# Altium integrated library Altera Cyclone.IntLib: 144 symbols (part 21 of 23)
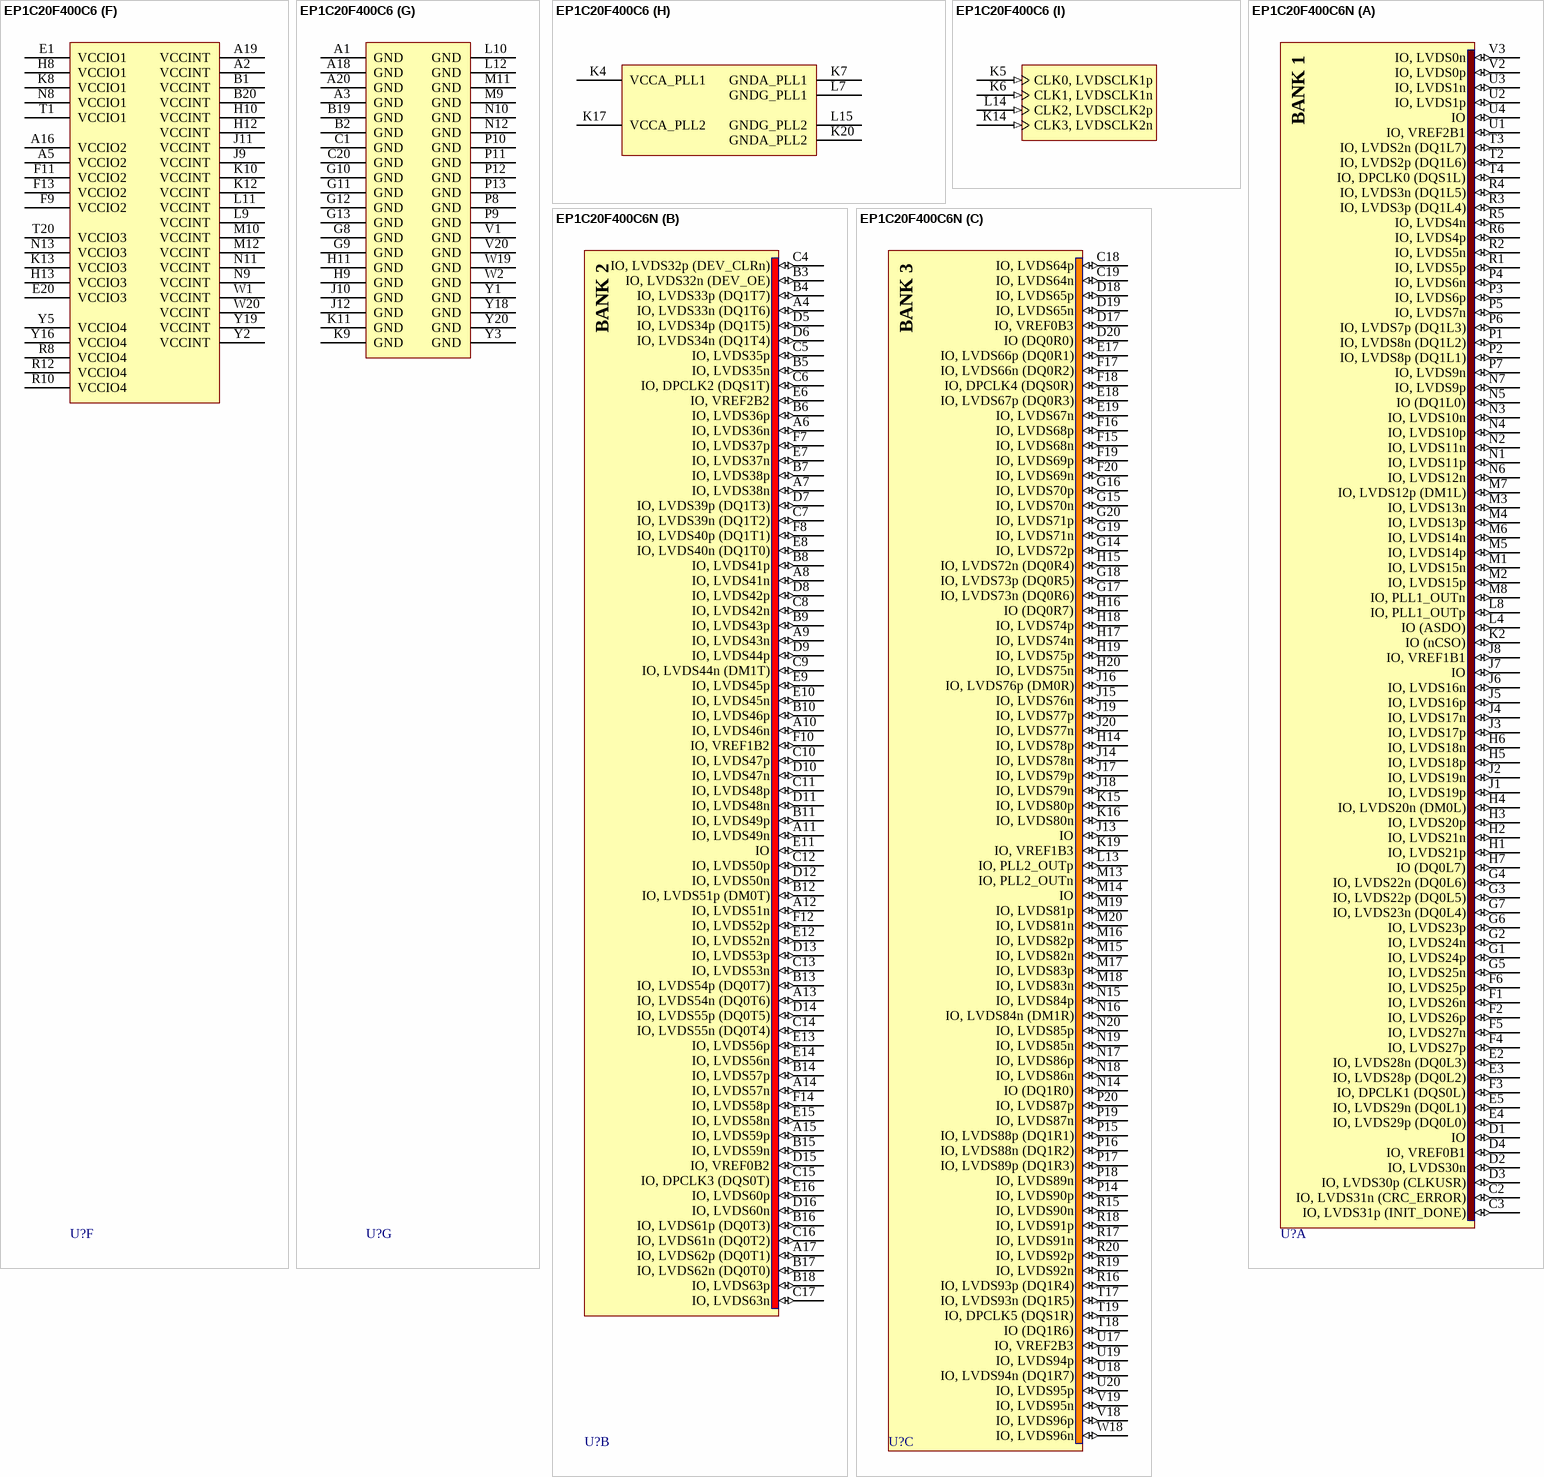
[diagram p173: symbols EP1C20F400C6 to EP1C20F400C6N]

## EP1C20F400C6
designator U?
Cyclone Family, 1.5V FPGA, 301 I/O Pins, 2 x PLLs, Commercial Grade, Speed Grade 6; Published: 17-Sep-2003; LatestRevisionDate: 13-Apr-2006; LatestRevisionNote: Pin C2 name fix, IPC-7351 Footprint Added.; DatasheetVersion: May-2008; PackageVersion: ver15.1, May-2008; PackageReference: FBGA400; Publisher: Altium Limited; PackageDescription: 400-Ball FineLine Ball Grid Array (FBGA400); Code_JEDEC: MS-034-AAH-1; Code_IPC: BGA100P20X20-400; ComponentLink1Description: Manufacturer Link; ComponentLink1URL: http://www.altera.com/products/devices/cyclone/cyc-index.jsp; ComponentLink2Description: Handbook; ComponentLink2URL: http://www.altera.com/literature/hb/cyc/cyc_c5v1.pdf; ComponentLink3Description: Packaging Specification; ComponentLink3URL: http://www.altera.com/literature/ds/dspkg.pdf
footprint FBGA400 (BGA, 400-Leads, Body 21x21mm, Pitch 1mm)
3D model EP1C20-FBGA400 (400-Ball FineLine Ball Grid Array (FBGA400))
signal-integrity model 1c (Cyclone)
part A pins: C2 IO, LVDS31n (CRC_ERROR) (io), C3 IO, LVDS31p (INIT_DONE) (io), D1 IO (io), D2 IO, LVDS30n (io), D3 IO, LVDS30p (CLKUSR) (io), D4 IO, VREF0B1 (io), E2 IO, LVDS28n (DQ0L3) (io), E3 IO, LVDS28p (DQ0L2) (io), E4 IO, LVDS29p (DQ0L0) (io), E5 IO, LVDS29n (DQ0L1) (io), F1 IO, LVDS26n (io), F2 IO, LVDS26p (io), F3 IO, DPCLK1 (DQS0L) (io), F4 IO, LVDS27p (io), F5 IO, LVDS27n (io), F6 IO, LVDS25p (io), G1 IO, LVDS24p (io), G2 IO, LVDS24n (io), G3 IO, LVDS22p (DQ0L5) (io), G4 IO, LVDS22n (DQ0L6) (io), G5 IO, LVDS25n (io), G6 IO, LVDS23p (io), G7 IO, LVDS23n (DQ0L4) (io), H1 IO, LVDS21p (io), H2 IO, LVDS21n (io), H3 IO, LVDS20p (io), H4 IO, LVDS20n (DM0L) (io), H5 IO, LVDS18p (io), H6 IO, LVDS18n (io), H7 IO (DQ0L7) (io), J1 IO, LVDS19p (io), J2 IO, LVDS19n (io), J3 IO, LVDS17p (io), J4 IO, LVDS17n (io), J5 IO, LVDS16p (io), J6 IO, LVDS16n (io), J7 IO (io), J8 IO, VREF1B1 (io), K2 IO (nCSO) (io), L4 IO (ASDO) (io), L8 IO, PLL1_OUTp (io), M1 IO, LVDS15n (io), M2 IO, LVDS15p (io), M3 IO, LVDS13n (io), M4 IO, LVDS13p (io), M5 IO, LVDS14p (io), M6 IO, LVDS14n (io), M7 IO, LVDS12p (DM1L) (io), M8 IO, PLL1_OUTn (io), N1 IO, LVDS11p (io), N2 IO, LVDS11n (io), N3 IO, LVDS10n (io), N4 IO, LVDS10p (io), N5 IO (DQ1L0) (io), N6 IO, LVDS12n (io), N7 IO, LVDS9p (io), P1 IO, LVDS8n (DQ1L2) (io), P2 IO, LVDS8p (DQ1L1) (io), P3 IO, LVDS6p (io), P4 IO, LVDS6n (io), P5 IO, LVDS7n (io), P6 IO, LVDS7p (DQ1L3) (io), P7 IO, LVDS9n (io), R1 IO, LVDS5p (io), R2 IO, LVDS5n (io), R3 IO, LVDS3p (DQ1L4) (io), R4 IO, LVDS3n (DQ1L5) (io), R5 IO, LVDS4n (io), R6 IO, LVDS4p (io), T2 IO, LVDS2p (DQ1L6) (io), T3 IO, LVDS2n (DQ1L7) (io), T4 IO, DPCLK0 (DQS1L) (io), U1 IO, VREF2B1 (io), U2 IO, LVDS1p (io), U3 IO, LVDS1n (io), U4 IO (io), V2 IO, LVDS0p (io), V3 IO, LVDS0n (io)
part B pins: A4 IO, LVDS33n (DQ1T6) (io), A6 IO, LVDS36n (io), A7 IO, LVDS38n (io), A8 IO, LVDS41n (io), A9 IO, LVDS43n (io), A10 IO, LVDS46n (io), A11 IO, LVDS49n (io), A12 IO, LVDS51n (io), A13 IO, LVDS54n (DQ0T6) (io), A14 IO, LVDS57n (io), A15 IO, LVDS59p (io), A17 IO, LVDS62p (DQ0T1) (io), B3 IO, LVDS32n (DEV_OE) (io), B4 IO, LVDS33p (DQ1T7) (io), B5 IO, LVDS35n (io), B6 IO, LVDS36p (io), B7 IO, LVDS38p (io), B8 IO, LVDS41p (io), B9 IO, LVDS43p (io), B10 IO, LVDS46p (io), B11 IO, LVDS49p (io), B12 IO, LVDS51p (DM0T) (io), B13 IO, LVDS54p (DQ0T7) (io), B14 IO, LVDS57p (io), B15 IO, LVDS59n (io), B16 IO, LVDS61p (DQ0T3) (io), B17 IO, LVDS62n (DQ0T0) (io), B18 IO, LVDS63p (io), C4 IO, LVDS32p (DEV_CLRn) (io), C5 IO, LVDS35p (io), C6 IO, DPCLK2 (DQS1T) (io), C7 IO, LVDS39n (DQ1T2) (io), C8 IO, LVDS42n (io), C9 IO, LVDS44n (DM1T) (io), C10 IO, LVDS47p (io), C11 IO, LVDS48p (io), C12 IO, LVDS50p (io), C13 IO, LVDS53n (io), C14 IO, LVDS55n (DQ0T4) (io), C15 IO, DPCLK3 (DQS0T) (io), C16 IO, LVDS61n (DQ0T2) (io), C17 IO, LVDS63n (io), D5 IO, LVDS34p (DQ1T5) (io), D6 IO, LVDS34n (DQ1T4) (io), D7 IO, LVDS39p (DQ1T3) (io), D8 IO, LVDS42p (io), D9 IO, LVDS44p (io), D10 IO, LVDS47n (io), D11 IO, LVDS48n (io), D12 IO, LVDS50n (io), D13 IO, LVDS53p (io), D14 IO, LVDS55p (DQ0T5) (io), D15 IO, VREF0B2 (io), D16 IO, LVDS60n (io), E6 IO, VREF2B2 (io), E7 IO, LVDS37n (io), E8 IO, LVDS40n (DQ1T0) (io), E9 IO, LVDS45p (io), E10 IO, LVDS45n (io), E11 IO (io), E12 IO, LVDS52n (io), E13 IO, LVDS56p (io), E14 IO, LVDS56n (io), E15 IO, LVDS58n (io), E16 IO, LVDS60p (io), F7 IO, LVDS37p (io), F8 IO, LVDS40p (DQ1T1) (io), F10 IO, VREF1B2 (io), F12 IO, LVDS52p (io), F14 IO, LVDS58p (io)
part C pins: C18 IO, LVDS64p (io), C19 IO, LVDS64n (io), D17 IO, VREF0B3 (io), D18 IO, LVDS65p (io), D19 IO, LVDS65n (io), D20 IO (DQ0R0) (io), E17 IO, LVDS66p (DQ0R1) (io), E18 IO, LVDS67p (DQ0R3) (io), E19 IO, LVDS67n (io), F15 IO, LVDS68n (io), F16 IO, LVDS68p (io), F17 IO, LVDS66n (DQ0R2) (io), F18 IO, DPCLK4 (DQS0R) (io), F19 IO, LVDS69p (io), F20 IO, LVDS69n (io), G14 IO, LVDS72p (io), G15 IO, LVDS70n (io), G16 IO, LVDS70p (io), G17 IO, LVDS73n (DQ0R6) (io), G18 IO, LVDS73p (DQ0R5) (io), G19 IO, LVDS71n (io), G20 IO, LVDS71p (io), H14 IO, LVDS78p (io), H15 IO, LVDS72n (DQ0R4) (io), H16 IO (DQ0R7) (io), H17 IO, LVDS74n (io), H18 IO, LVDS74p (io), H19 IO, LVDS75p (io), H20 IO, LVDS75n (io), J13 IO (io), J14 IO, LVDS78n (io), J15 IO, LVDS76n (io), J16 IO, LVDS76p (DM0R) (io), J17 IO, LVDS79p (io), J18 IO, LVDS79n (io), J19 IO, LVDS77p (io), J20 IO, LVDS77n (io), K15 IO, LVDS80p (io), K16 IO, LVDS80n (io), K19 IO, VREF1B3 (io), L13 IO, PLL2_OUTp (io), M13 IO, PLL2_OUTn (io), M14 IO (io), M15 IO, LVDS82n (io), M16 IO, LVDS82p (io), M17 IO, LVDS83p (io), M18 IO, LVDS83n (io), M19 IO, LVDS81p (io), M20 IO, LVDS81n (io), N14 IO (DQ1R0) (io), N15 IO, LVDS84p (io), N16 IO, LVDS84n (DM1R) (io), N17 IO, LVDS86p (io), N18 IO, LVDS86n (io), N19 IO, LVDS85n (io), N20 IO, LVDS85p (io), P14 IO, LVDS90p (io), P15 IO, LVDS88p (DQ1R1) (io), P16 IO, LVDS88n (DQ1R2) (io), P17 IO, LVDS89p (DQ1R3) (io), P18 IO, LVDS89n (io), P19 IO, LVDS87n (io), P20 IO, LVDS87p (io), R15 IO, LVDS90n (io), R16 IO, LVDS93p (DQ1R4) (io), R17 IO, LVDS91n (io), R18 IO, LVDS91p (io), R19 IO, LVDS92n (io), R20 IO, LVDS92p (io), T17 IO, LVDS93n (DQ1R5) (io), T18 IO (DQ1R6) (io), T19 IO, DPCLK5 (DQS1R) (io), U17 IO, VREF2B3 (io), U18 IO, LVDS94n (DQ1R7) (io), U19 IO, LVDS94p (io), U20 IO, LVDS95p (io), V18 IO, LVDS96p (io), V19 IO, LVDS95n (io), W18 IO, LVDS96n (io)
part D pins: R7 IO, LVDS121p (DQ1B3) (io), R9 IO, LVDS116n (io), R11 IO (io), R13 IO, LVDS107n (io), R14 IO, LVDS104p (io), T5 IO, LVDS126p (DQ1B7) (io), T6 IO, DPCLK7 (DQS1B) (io), T7 IO, VREF2B4 (io), T8 IO, LVDS121n (DQ1B2) (io), T9 IO, LVDS116p (DM1B) (io), T10 IO, LVDS114p (io), T11 IO, LVDS109p (io), T12 IO, LVDS109n (io), T13 IO, LVDS107p (io), T14 IO, LVDS104n (io), T15 IO, LVDS100p (io), T16 IO, LVDS100n (io), U5 IO, LVDS126n (DQ1B6) (io), U6 IO, LVDS123p (DQ1B4) (io), U7 IO, LVDS120n (DQ1B0) (io), U8 IO, LVDS119n (io), U9 IO, LVDS117p (io), U10 IO, LVDS114n (io), U11 IO, LVDS112n (io), U12 IO, LVDS108p (DM0B) (io), U13 IO, LVDS105p (DQ0B5) (io), U14 IO, LVDS102p (io), U15 IO, LVDS101n (io), U16 IO, LVDS98n (DQ0B0) (io), V4 IO, LVDS127p (io), V5 IO, LVDS125p (io), V6 IO, LVDS123n (io), V7 IO, LVDS120p (DQ1B1) (io), V8 IO, LVDS119p (io), V9 IO, LVDS117n (io), V10 IO, VREF1B4 (io), V11 IO, LVDS112p (io), V12 IO, LVDS108n (io), V13 IO, LVDS105n (DQ0B4) (io), V14 IO, LVDS102n (io), V15 IO, LVDS101p (io), V16 IO, LVDS99n (DQ0B2) (io), V17 IO, LVDS98p (DQ0B1) (io), W3 IO, LVDS128p (io), W4 IO, LVDS127n (io), W5 IO, LVDS125n (io), W6 IO, LVDS124p (io), W7 IO, LVDS122p (io), W8 IO, LVDS118p (io), W9 IO, LVDS115n (io), W10 IO, LVDS113p (io), W11 IO, LVDS111p (io), W12 IO, LVDS110n (io), W13 IO, LVDS106n (DQ0B6) (io), W14 IO, LVDS103p (io), W15 IO, DPCLK6 (DQS0B) (io), W16 IO, LVDS99p (DQ0B3) (io), W17 IO, LVDS97n (io), Y4 IO, LVDS128n (io), Y6 IO, LVDS124n (DQ1B5) (io), Y7 IO, LVDS122n (io), Y8 IO, LVDS118n (io), Y9 IO, LVDS115p (io), Y10 IO, LVDS113n (io), Y11 IO, LVDS111n (io), Y12 IO, LVDS110p (io), Y13 IO, LVDS106p (DQ0B7) (io), Y14 IO, LVDS103n (io), Y15 IO, VREF0B4 (io), Y17 IO, LVDS97p (io)
part E pins: K1 nCONFIG (in), K3 DATA0 (in), K18 TDI (in), L1 MSEL0 (in), L2 nCEO (out), L3 DCLK (io), L5 nCE (in), L6 MSEL1 (in), L16 TMS (in), L17 nSTATUS (io), L18 CONF_DONE (io), L19 TCK (in), L20 TDO (out)
part F pins: A2 VCCINT (power), A5 VCCIO2 (power), A16 VCCIO2 (power), A19 VCCINT (power), B1 VCCINT (power), B20 VCCINT (power), E1 VCCIO1 (power), E20 VCCIO3 (power), F9 VCCIO2 (power), F11 VCCIO2 (power), F13 VCCIO2 (power), H8 VCCIO1 (power), H10 VCCINT (power), H12 VCCINT (power), H13 VCCIO3 (power), J9 VCCINT (power), J11 VCCINT (power), K8 VCCIO1 (power), K10 VCCINT (power), K12 VCCINT (power), K13 VCCIO3 (power), L9 VCCINT (power), L11 VCCINT (power), M10 VCCINT (power), M12 VCCINT (power), N8 VCCIO1 (power), N9 VCCINT (power), N11 VCCINT (power), N13 VCCIO3 (power), R8 VCCIO4 (power), R10 VCCIO4 (power), R12 VCCIO4 (power), T1 VCCIO1 (power), T20 VCCIO3 (power), W1 VCCINT (power), W20 VCCINT (power), Y2 VCCINT (power), Y5 VCCIO4 (power), Y16 VCCIO4 (power), Y19 VCCINT (power)
part G pins: A1 GND (power), A3 GND (power), A18 GND (power), A20 GND (power), B2 GND (power), B19 GND (power), C1 GND (power), C20 GND (power), G8 GND (power), G9 GND (power), G10 GND (power), G11 GND (power), G12 GND (power), G13 GND (power), H9 GND (power), H11 GND (power), J10 GND (power), J12 GND (power), K9 GND (power), K11 GND (power), L10 GND (power), L12 GND (power), M9 GND (power), M11 GND (power), N10 GND (power), N12 GND (power), P8 GND (power), P9 GND (power), P10 GND (power), P11 GND (power), P12 GND (power), P13 GND (power), V1 GND (power), V20 GND (power), W2 GND (power), W19 GND (power), Y1 GND (power), Y3 GND (power), Y18 GND (power), Y20 GND (power)
part H pins: K4 VCCA_PLL1 (power), K7 GNDA_PLL1 (power), K17 VCCA_PLL2 (power), K20 GNDA_PLL2 (power), L7 GNDG_PLL1 (power), L15 GNDG_PLL2 (power)
part I pins: K5 CLK0, LVDSCLK1p (in), K6 CLK1, LVDSCLK1n (in), K14 CLK3, LVDSCLK2n (in), L14 CLK2, LVDSCLK2p (in)
part A text: BANK 1
part B text: BANK 2
part C text: BANK 3
part D text: BANK 4

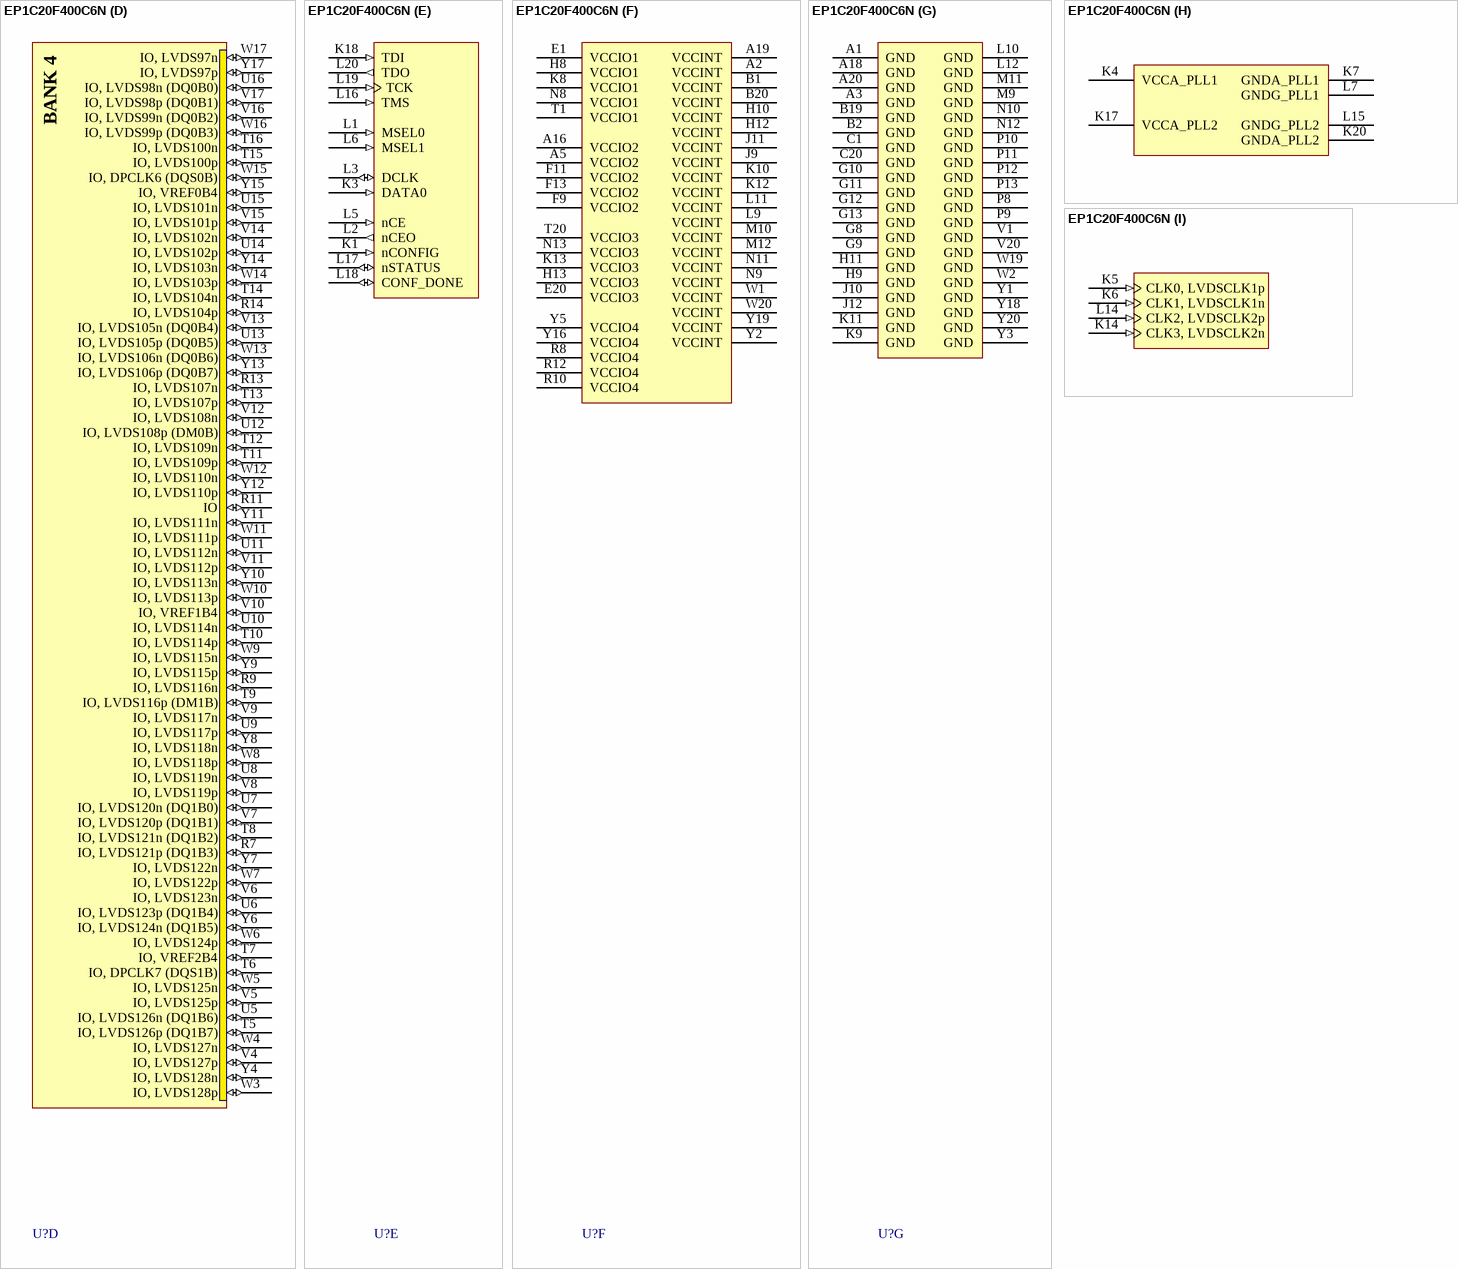
[diagram p138: symbol EP1C20F400C6N]

## EP1C20F400C6N
designator U?
Cyclone Family, 1.5V FPGA, 301 I/O Pins, 2 x PLLs, Commercial Grade, Speed Grade 6, Pb-Free; Published: 18-Aug-2005; LatestRevisionDate: 13-Apr-2006; LatestRevisionNote: Pin C2 name fix, IPC-7351 Footprint Added.; DatasheetVersion: May-2008; PackageVersion: ver15.1, May-2008; PackageReference: FBGA400; Publisher: Altium Limited; PackageDescription: 400-Ball FineLine Ball Grid Array (FBGA400); Code_JEDEC: MS-034-AAH-1; Code_IPC: BGA100P20X20-400; ComponentLink1Description: Manufacturer Link; ComponentLink1URL: http://www.altera.com/products/devices/cyclone/cyc-index.jsp; ComponentLink2Description: Handbook; ComponentLink2URL: http://www.altera.com/literature/hb/cyc/cyc_c5v1.pdf; ComponentLink3Description: Packaging Specification; ComponentLink3URL: http://www.altera.com/literature/ds/dspkg.pdf
footprint FBGA400 (BGA, 400-Leads, Body 21x21mm, Pitch 1mm)
3D model EP1C20-FBGA400 (400-Ball FineLine Ball Grid Array (FBGA400))
signal-integrity model 1c (Cyclone)
part A pins: C2 IO, LVDS31n (CRC_ERROR) (io), C3 IO, LVDS31p (INIT_DONE) (io), D1 IO (io), D2 IO, LVDS30n (io), D3 IO, LVDS30p (CLKUSR) (io), D4 IO, VREF0B1 (io), E2 IO, LVDS28n (DQ0L3) (io), E3 IO, LVDS28p (DQ0L2) (io), E4 IO, LVDS29p (DQ0L0) (io), E5 IO, LVDS29n (DQ0L1) (io), F1 IO, LVDS26n (io), F2 IO, LVDS26p (io), F3 IO, DPCLK1 (DQS0L) (io), F4 IO, LVDS27p (io), F5 IO, LVDS27n (io), F6 IO, LVDS25p (io), G1 IO, LVDS24p (io), G2 IO, LVDS24n (io), G3 IO, LVDS22p (DQ0L5) (io), G4 IO, LVDS22n (DQ0L6) (io), G5 IO, LVDS25n (io), G6 IO, LVDS23p (io), G7 IO, LVDS23n (DQ0L4) (io), H1 IO, LVDS21p (io), H2 IO, LVDS21n (io), H3 IO, LVDS20p (io), H4 IO, LVDS20n (DM0L) (io), H5 IO, LVDS18p (io), H6 IO, LVDS18n (io), H7 IO (DQ0L7) (io), J1 IO, LVDS19p (io), J2 IO, LVDS19n (io), J3 IO, LVDS17p (io), J4 IO, LVDS17n (io), J5 IO, LVDS16p (io), J6 IO, LVDS16n (io), J7 IO (io), J8 IO, VREF1B1 (io), K2 IO (nCSO) (io), L4 IO (ASDO) (io), L8 IO, PLL1_OUTp (io), M1 IO, LVDS15n (io), M2 IO, LVDS15p (io), M3 IO, LVDS13n (io), M4 IO, LVDS13p (io), M5 IO, LVDS14p (io), M6 IO, LVDS14n (io), M7 IO, LVDS12p (DM1L) (io), M8 IO, PLL1_OUTn (io), N1 IO, LVDS11p (io), N2 IO, LVDS11n (io), N3 IO, LVDS10n (io), N4 IO, LVDS10p (io), N5 IO (DQ1L0) (io), N6 IO, LVDS12n (io), N7 IO, LVDS9p (io), P1 IO, LVDS8n (DQ1L2) (io), P2 IO, LVDS8p (DQ1L1) (io), P3 IO, LVDS6p (io), P4 IO, LVDS6n (io), P5 IO, LVDS7n (io), P6 IO, LVDS7p (DQ1L3) (io), P7 IO, LVDS9n (io), R1 IO, LVDS5p (io), R2 IO, LVDS5n (io), R3 IO, LVDS3p (DQ1L4) (io), R4 IO, LVDS3n (DQ1L5) (io), R5 IO, LVDS4n (io), R6 IO, LVDS4p (io), T2 IO, LVDS2p (DQ1L6) (io), T3 IO, LVDS2n (DQ1L7) (io), T4 IO, DPCLK0 (DQS1L) (io), U1 IO, VREF2B1 (io), U2 IO, LVDS1p (io), U3 IO, LVDS1n (io), U4 IO (io), V2 IO, LVDS0p (io), V3 IO, LVDS0n (io)
part B pins: A4 IO, LVDS33n (DQ1T6) (io), A6 IO, LVDS36n (io), A7 IO, LVDS38n (io), A8 IO, LVDS41n (io), A9 IO, LVDS43n (io), A10 IO, LVDS46n (io), A11 IO, LVDS49n (io), A12 IO, LVDS51n (io), A13 IO, LVDS54n (DQ0T6) (io), A14 IO, LVDS57n (io), A15 IO, LVDS59p (io), A17 IO, LVDS62p (DQ0T1) (io), B3 IO, LVDS32n (DEV_OE) (io), B4 IO, LVDS33p (DQ1T7) (io), B5 IO, LVDS35n (io), B6 IO, LVDS36p (io), B7 IO, LVDS38p (io), B8 IO, LVDS41p (io), B9 IO, LVDS43p (io), B10 IO, LVDS46p (io), B11 IO, LVDS49p (io), B12 IO, LVDS51p (DM0T) (io), B13 IO, LVDS54p (DQ0T7) (io), B14 IO, LVDS57p (io), B15 IO, LVDS59n (io), B16 IO, LVDS61p (DQ0T3) (io), B17 IO, LVDS62n (DQ0T0) (io), B18 IO, LVDS63p (io), C4 IO, LVDS32p (DEV_CLRn) (io), C5 IO, LVDS35p (io), C6 IO, DPCLK2 (DQS1T) (io), C7 IO, LVDS39n (DQ1T2) (io), C8 IO, LVDS42n (io), C9 IO, LVDS44n (DM1T) (io), C10 IO, LVDS47p (io), C11 IO, LVDS48p (io), C12 IO, LVDS50p (io), C13 IO, LVDS53n (io), C14 IO, LVDS55n (DQ0T4) (io), C15 IO, DPCLK3 (DQS0T) (io), C16 IO, LVDS61n (DQ0T2) (io), C17 IO, LVDS63n (io), D5 IO, LVDS34p (DQ1T5) (io), D6 IO, LVDS34n (DQ1T4) (io), D7 IO, LVDS39p (DQ1T3) (io), D8 IO, LVDS42p (io), D9 IO, LVDS44p (io), D10 IO, LVDS47n (io), D11 IO, LVDS48n (io), D12 IO, LVDS50n (io), D13 IO, LVDS53p (io), D14 IO, LVDS55p (DQ0T5) (io), D15 IO, VREF0B2 (io), D16 IO, LVDS60n (io), E6 IO, VREF2B2 (io), E7 IO, LVDS37n (io), E8 IO, LVDS40n (DQ1T0) (io), E9 IO, LVDS45p (io), E10 IO, LVDS45n (io), E11 IO (io), E12 IO, LVDS52n (io), E13 IO, LVDS56p (io), E14 IO, LVDS56n (io), E15 IO, LVDS58n (io), E16 IO, LVDS60p (io), F7 IO, LVDS37p (io), F8 IO, LVDS40p (DQ1T1) (io), F10 IO, VREF1B2 (io), F12 IO, LVDS52p (io), F14 IO, LVDS58p (io)
part C pins: C18 IO, LVDS64p (io), C19 IO, LVDS64n (io), D17 IO, VREF0B3 (io), D18 IO, LVDS65p (io), D19 IO, LVDS65n (io), D20 IO (DQ0R0) (io), E17 IO, LVDS66p (DQ0R1) (io), E18 IO, LVDS67p (DQ0R3) (io), E19 IO, LVDS67n (io), F15 IO, LVDS68n (io), F16 IO, LVDS68p (io), F17 IO, LVDS66n (DQ0R2) (io), F18 IO, DPCLK4 (DQS0R) (io), F19 IO, LVDS69p (io), F20 IO, LVDS69n (io), G14 IO, LVDS72p (io), G15 IO, LVDS70n (io), G16 IO, LVDS70p (io), G17 IO, LVDS73n (DQ0R6) (io), G18 IO, LVDS73p (DQ0R5) (io), G19 IO, LVDS71n (io), G20 IO, LVDS71p (io), H14 IO, LVDS78p (io), H15 IO, LVDS72n (DQ0R4) (io), H16 IO (DQ0R7) (io), H17 IO, LVDS74n (io), H18 IO, LVDS74p (io), H19 IO, LVDS75p (io), H20 IO, LVDS75n (io), J13 IO (io), J14 IO, LVDS78n (io), J15 IO, LVDS76n (io), J16 IO, LVDS76p (DM0R) (io), J17 IO, LVDS79p (io), J18 IO, LVDS79n (io), J19 IO, LVDS77p (io), J20 IO, LVDS77n (io), K15 IO, LVDS80p (io), K16 IO, LVDS80n (io), K19 IO, VREF1B3 (io), L13 IO, PLL2_OUTp (io), M13 IO, PLL2_OUTn (io), M14 IO (io), M15 IO, LVDS82n (io), M16 IO, LVDS82p (io), M17 IO, LVDS83p (io), M18 IO, LVDS83n (io), M19 IO, LVDS81p (io), M20 IO, LVDS81n (io), N14 IO (DQ1R0) (io), N15 IO, LVDS84p (io), N16 IO, LVDS84n (DM1R) (io), N17 IO, LVDS86p (io), N18 IO, LVDS86n (io), N19 IO, LVDS85n (io), N20 IO, LVDS85p (io), P14 IO, LVDS90p (io), P15 IO, LVDS88p (DQ1R1) (io), P16 IO, LVDS88n (DQ1R2) (io), P17 IO, LVDS89p (DQ1R3) (io), P18 IO, LVDS89n (io), P19 IO, LVDS87n (io), P20 IO, LVDS87p (io), R15 IO, LVDS90n (io), R16 IO, LVDS93p (DQ1R4) (io), R17 IO, LVDS91n (io), R18 IO, LVDS91p (io), R19 IO, LVDS92n (io), R20 IO, LVDS92p (io), T17 IO, LVDS93n (DQ1R5) (io), T18 IO (DQ1R6) (io), T19 IO, DPCLK5 (DQS1R) (io), U17 IO, VREF2B3 (io), U18 IO, LVDS94n (DQ1R7) (io), U19 IO, LVDS94p (io), U20 IO, LVDS95p (io), V18 IO, LVDS96p (io), V19 IO, LVDS95n (io), W18 IO, LVDS96n (io)
part D pins: R7 IO, LVDS121p (DQ1B3) (io), R9 IO, LVDS116n (io), R11 IO (io), R13 IO, LVDS107n (io), R14 IO, LVDS104p (io), T5 IO, LVDS126p (DQ1B7) (io), T6 IO, DPCLK7 (DQS1B) (io), T7 IO, VREF2B4 (io), T8 IO, LVDS121n (DQ1B2) (io), T9 IO, LVDS116p (DM1B) (io), T10 IO, LVDS114p (io), T11 IO, LVDS109p (io), T12 IO, LVDS109n (io), T13 IO, LVDS107p (io), T14 IO, LVDS104n (io), T15 IO, LVDS100p (io), T16 IO, LVDS100n (io), U5 IO, LVDS126n (DQ1B6) (io), U6 IO, LVDS123p (DQ1B4) (io), U7 IO, LVDS120n (DQ1B0) (io), U8 IO, LVDS119n (io), U9 IO, LVDS117p (io), U10 IO, LVDS114n (io), U11 IO, LVDS112n (io), U12 IO, LVDS108p (DM0B) (io), U13 IO, LVDS105p (DQ0B5) (io), U14 IO, LVDS102p (io), U15 IO, LVDS101n (io), U16 IO, LVDS98n (DQ0B0) (io), V4 IO, LVDS127p (io), V5 IO, LVDS125p (io), V6 IO, LVDS123n (io), V7 IO, LVDS120p (DQ1B1) (io), V8 IO, LVDS119p (io), V9 IO, LVDS117n (io), V10 IO, VREF1B4 (io), V11 IO, LVDS112p (io), V12 IO, LVDS108n (io), V13 IO, LVDS105n (DQ0B4) (io), V14 IO, LVDS102n (io), V15 IO, LVDS101p (io), V16 IO, LVDS99n (DQ0B2) (io), V17 IO, LVDS98p (DQ0B1) (io), W3 IO, LVDS128p (io), W4 IO, LVDS127n (io), W5 IO, LVDS125n (io), W6 IO, LVDS124p (io), W7 IO, LVDS122p (io), W8 IO, LVDS118p (io), W9 IO, LVDS115n (io), W10 IO, LVDS113p (io), W11 IO, LVDS111p (io), W12 IO, LVDS110n (io), W13 IO, LVDS106n (DQ0B6) (io), W14 IO, LVDS103p (io), W15 IO, DPCLK6 (DQS0B) (io), W16 IO, LVDS99p (DQ0B3) (io), W17 IO, LVDS97n (io), Y4 IO, LVDS128n (io), Y6 IO, LVDS124n (DQ1B5) (io), Y7 IO, LVDS122n (io), Y8 IO, LVDS118n (io), Y9 IO, LVDS115p (io), Y10 IO, LVDS113n (io), Y11 IO, LVDS111n (io), Y12 IO, LVDS110p (io), Y13 IO, LVDS106p (DQ0B7) (io), Y14 IO, LVDS103n (io), Y15 IO, VREF0B4 (io), Y17 IO, LVDS97p (io)
part E pins: K1 nCONFIG (in), K3 DATA0 (in), K18 TDI (in), L1 MSEL0 (in), L2 nCEO (out), L3 DCLK (io), L5 nCE (in), L6 MSEL1 (in), L16 TMS (in), L17 nSTATUS (io), L18 CONF_DONE (io), L19 TCK (in), L20 TDO (out)
part F pins: A2 VCCINT (power), A5 VCCIO2 (power), A16 VCCIO2 (power), A19 VCCINT (power), B1 VCCINT (power), B20 VCCINT (power), E1 VCCIO1 (power), E20 VCCIO3 (power), F9 VCCIO2 (power), F11 VCCIO2 (power), F13 VCCIO2 (power), H8 VCCIO1 (power), H10 VCCINT (power), H12 VCCINT (power), H13 VCCIO3 (power), J9 VCCINT (power), J11 VCCINT (power), K8 VCCIO1 (power), K10 VCCINT (power), K12 VCCINT (power), K13 VCCIO3 (power), L9 VCCINT (power), L11 VCCINT (power), M10 VCCINT (power), M12 VCCINT (power), N8 VCCIO1 (power), N9 VCCINT (power), N11 VCCINT (power), N13 VCCIO3 (power), R8 VCCIO4 (power), R10 VCCIO4 (power), R12 VCCIO4 (power), T1 VCCIO1 (power), T20 VCCIO3 (power), W1 VCCINT (power), W20 VCCINT (power), Y2 VCCINT (power), Y5 VCCIO4 (power), Y16 VCCIO4 (power), Y19 VCCINT (power)
part G pins: A1 GND (power), A3 GND (power), A18 GND (power), A20 GND (power), B2 GND (power), B19 GND (power), C1 GND (power), C20 GND (power), G8 GND (power), G9 GND (power), G10 GND (power), G11 GND (power), G12 GND (power), G13 GND (power), H9 GND (power), H11 GND (power), J10 GND (power), J12 GND (power), K9 GND (power), K11 GND (power), L10 GND (power), L12 GND (power), M9 GND (power), M11 GND (power), N10 GND (power), N12 GND (power), P8 GND (power), P9 GND (power), P10 GND (power), P11 GND (power), P12 GND (power), P13 GND (power), V1 GND (power), V20 GND (power), W2 GND (power), W19 GND (power), Y1 GND (power), Y3 GND (power), Y18 GND (power), Y20 GND (power)
part H pins: K4 VCCA_PLL1 (power), K7 GNDA_PLL1 (power), K17 VCCA_PLL2 (power), K20 GNDA_PLL2 (power), L7 GNDG_PLL1 (power), L15 GNDG_PLL2 (power)
part I pins: K5 CLK0, LVDSCLK1p (in), K6 CLK1, LVDSCLK1n (in), K14 CLK3, LVDSCLK2n (in), L14 CLK2, LVDSCLK2p (in)
part A text: BANK 1
part B text: BANK 2
part C text: BANK 3
part D text: BANK 4

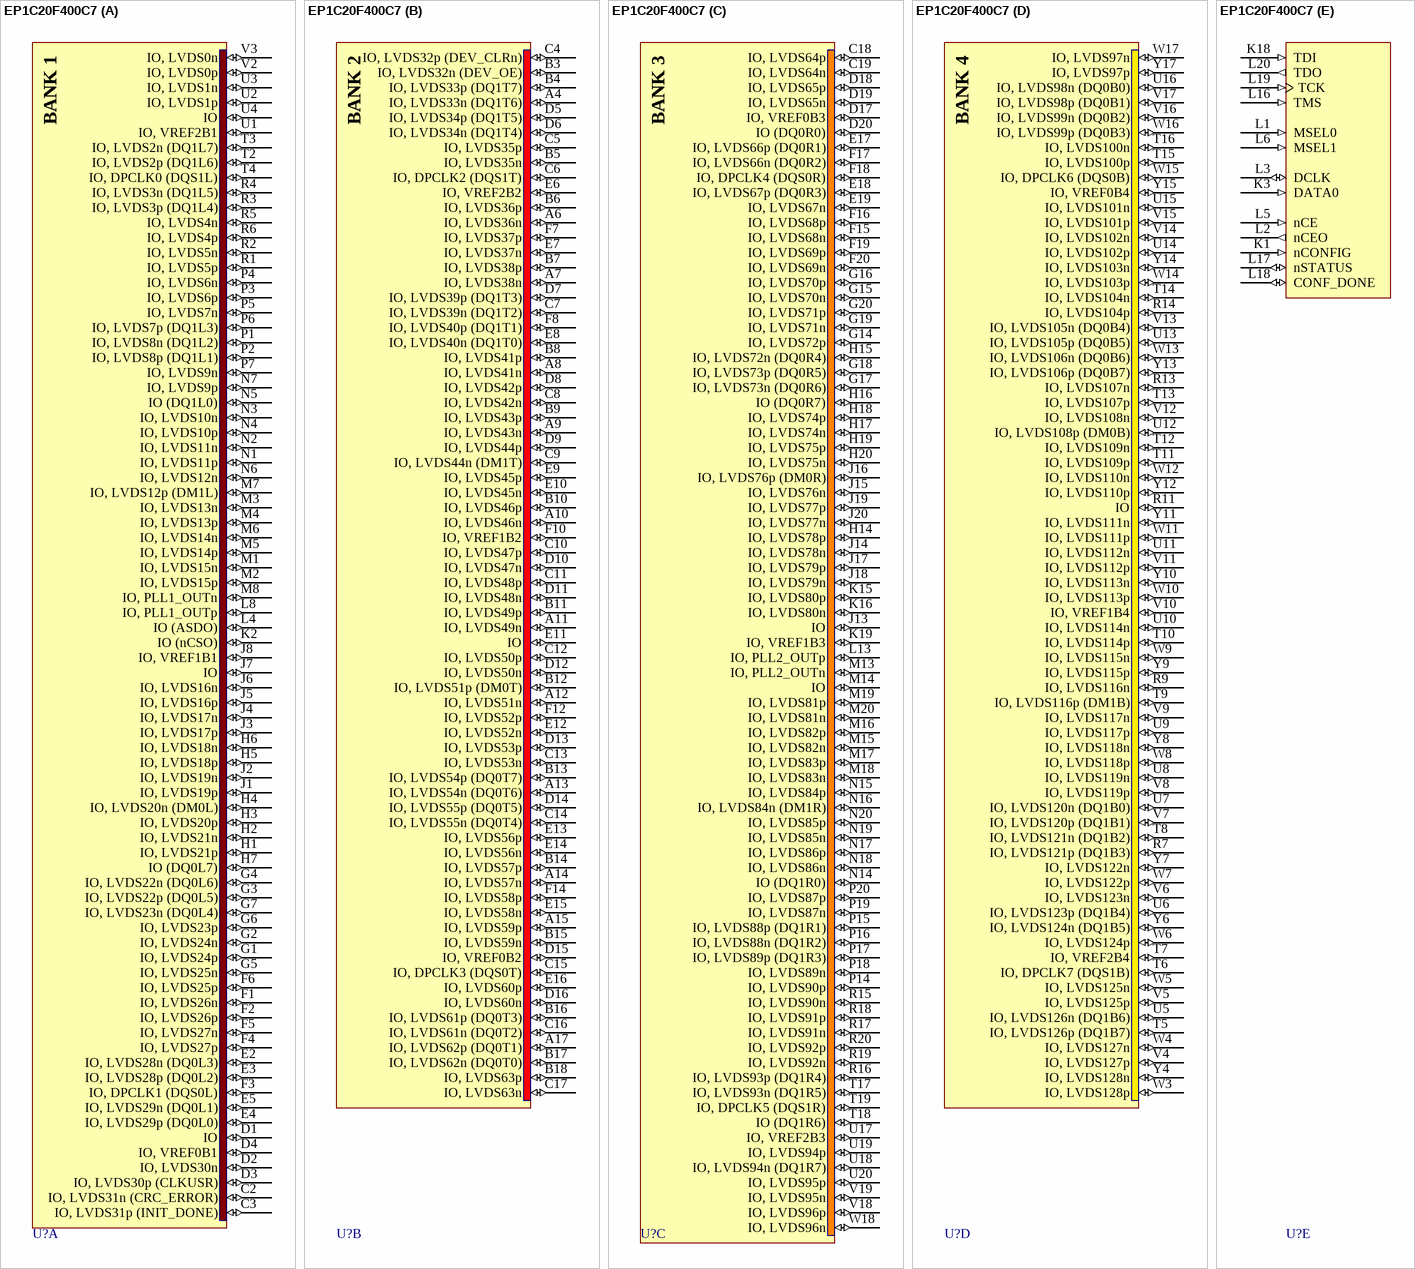
[diagram p139: symbol EP1C20F400C7]

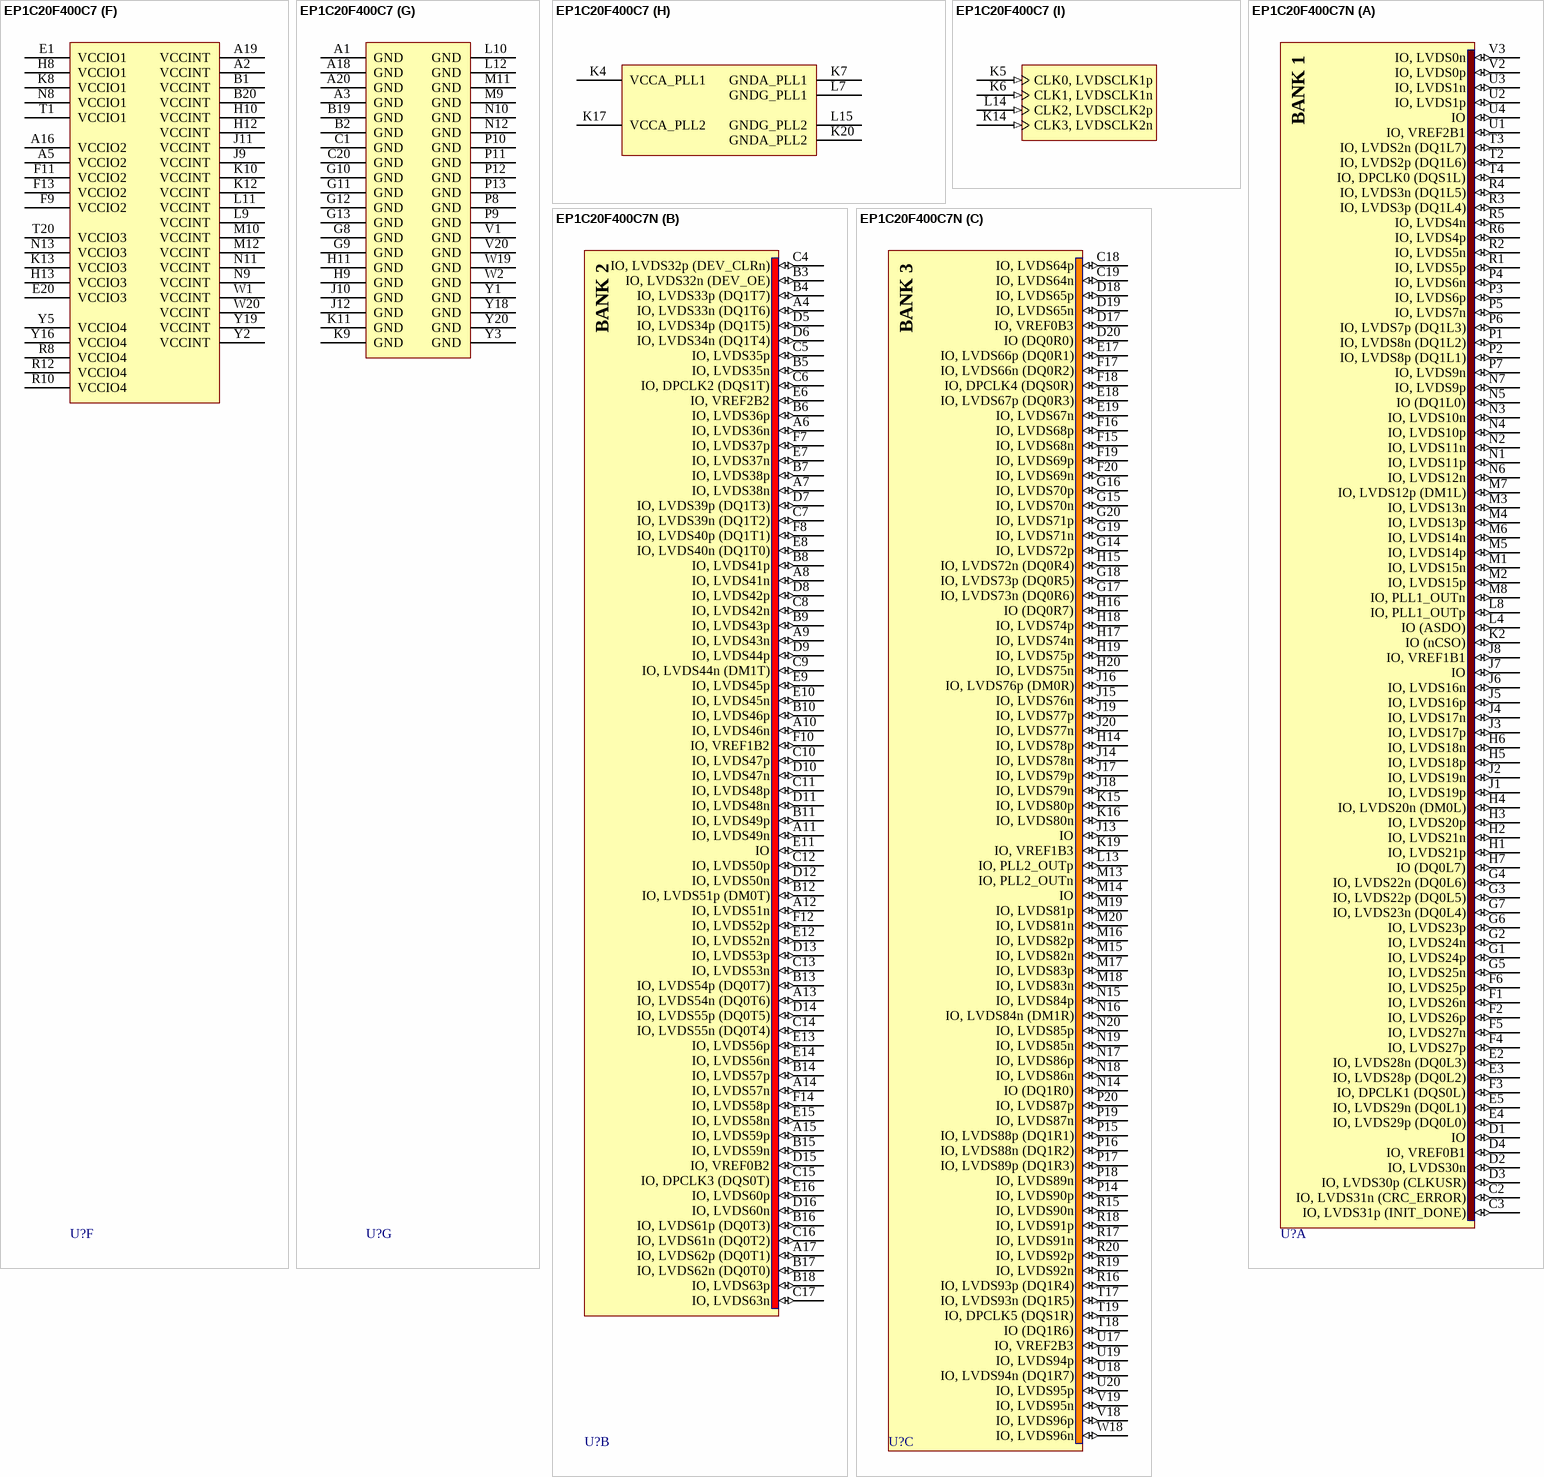
[diagram p140: symbols EP1C20F400C7 to EP1C20F400C7N]

## EP1C20F400C7
designator U?
Cyclone Family, 1.5V FPGA, 301 I/O Pins, 2 x PLLs, Commercial Grade, Speed Grade 7; Published: 17-Sep-2003; LatestRevisionDate: 13-Apr-2006; LatestRevisionNote: Pin C2 name fix, IPC-7351 Footprint Added.; DatasheetVersion: May-2008; PackageVersion: ver15.1, May-2008; PackageReference: FBGA400; Publisher: Altium Limited; PackageDescription: 400-Ball FineLine Ball Grid Array (FBGA400); Code_JEDEC: MS-034-AAH-1; Code_IPC: BGA100P20X20-400; ComponentLink1Description: Manufacturer Link; ComponentLink1URL: http://www.altera.com/products/devices/cyclone/cyc-index.jsp; ComponentLink2Description: Handbook; ComponentLink2URL: http://www.altera.com/literature/hb/cyc/cyc_c5v1.pdf; ComponentLink3Description: Packaging Specification; ComponentLink3URL: http://www.altera.com/literature/ds/dspkg.pdf
footprint FBGA400 (BGA, 400-Leads, Body 21x21mm, Pitch 1mm)
3D model EP1C20-FBGA400 (400-Ball FineLine Ball Grid Array (FBGA400))
signal-integrity model 1c (Cyclone)
part A pins: C2 IO, LVDS31n (CRC_ERROR) (io), C3 IO, LVDS31p (INIT_DONE) (io), D1 IO (io), D2 IO, LVDS30n (io), D3 IO, LVDS30p (CLKUSR) (io), D4 IO, VREF0B1 (io), E2 IO, LVDS28n (DQ0L3) (io), E3 IO, LVDS28p (DQ0L2) (io), E4 IO, LVDS29p (DQ0L0) (io), E5 IO, LVDS29n (DQ0L1) (io), F1 IO, LVDS26n (io), F2 IO, LVDS26p (io), F3 IO, DPCLK1 (DQS0L) (io), F4 IO, LVDS27p (io), F5 IO, LVDS27n (io), F6 IO, LVDS25p (io), G1 IO, LVDS24p (io), G2 IO, LVDS24n (io), G3 IO, LVDS22p (DQ0L5) (io), G4 IO, LVDS22n (DQ0L6) (io), G5 IO, LVDS25n (io), G6 IO, LVDS23p (io), G7 IO, LVDS23n (DQ0L4) (io), H1 IO, LVDS21p (io), H2 IO, LVDS21n (io), H3 IO, LVDS20p (io), H4 IO, LVDS20n (DM0L) (io), H5 IO, LVDS18p (io), H6 IO, LVDS18n (io), H7 IO (DQ0L7) (io), J1 IO, LVDS19p (io), J2 IO, LVDS19n (io), J3 IO, LVDS17p (io), J4 IO, LVDS17n (io), J5 IO, LVDS16p (io), J6 IO, LVDS16n (io), J7 IO (io), J8 IO, VREF1B1 (io), K2 IO (nCSO) (io), L4 IO (ASDO) (io), L8 IO, PLL1_OUTp (io), M1 IO, LVDS15n (io), M2 IO, LVDS15p (io), M3 IO, LVDS13n (io), M4 IO, LVDS13p (io), M5 IO, LVDS14p (io), M6 IO, LVDS14n (io), M7 IO, LVDS12p (DM1L) (io), M8 IO, PLL1_OUTn (io), N1 IO, LVDS11p (io), N2 IO, LVDS11n (io), N3 IO, LVDS10n (io), N4 IO, LVDS10p (io), N5 IO (DQ1L0) (io), N6 IO, LVDS12n (io), N7 IO, LVDS9p (io), P1 IO, LVDS8n (DQ1L2) (io), P2 IO, LVDS8p (DQ1L1) (io), P3 IO, LVDS6p (io), P4 IO, LVDS6n (io), P5 IO, LVDS7n (io), P6 IO, LVDS7p (DQ1L3) (io), P7 IO, LVDS9n (io), R1 IO, LVDS5p (io), R2 IO, LVDS5n (io), R3 IO, LVDS3p (DQ1L4) (io), R4 IO, LVDS3n (DQ1L5) (io), R5 IO, LVDS4n (io), R6 IO, LVDS4p (io), T2 IO, LVDS2p (DQ1L6) (io), T3 IO, LVDS2n (DQ1L7) (io), T4 IO, DPCLK0 (DQS1L) (io), U1 IO, VREF2B1 (io), U2 IO, LVDS1p (io), U3 IO, LVDS1n (io), U4 IO (io), V2 IO, LVDS0p (io), V3 IO, LVDS0n (io)
part B pins: A4 IO, LVDS33n (DQ1T6) (io), A6 IO, LVDS36n (io), A7 IO, LVDS38n (io), A8 IO, LVDS41n (io), A9 IO, LVDS43n (io), A10 IO, LVDS46n (io), A11 IO, LVDS49n (io), A12 IO, LVDS51n (io), A13 IO, LVDS54n (DQ0T6) (io), A14 IO, LVDS57n (io), A15 IO, LVDS59p (io), A17 IO, LVDS62p (DQ0T1) (io), B3 IO, LVDS32n (DEV_OE) (io), B4 IO, LVDS33p (DQ1T7) (io), B5 IO, LVDS35n (io), B6 IO, LVDS36p (io), B7 IO, LVDS38p (io), B8 IO, LVDS41p (io), B9 IO, LVDS43p (io), B10 IO, LVDS46p (io), B11 IO, LVDS49p (io), B12 IO, LVDS51p (DM0T) (io), B13 IO, LVDS54p (DQ0T7) (io), B14 IO, LVDS57p (io), B15 IO, LVDS59n (io), B16 IO, LVDS61p (DQ0T3) (io), B17 IO, LVDS62n (DQ0T0) (io), B18 IO, LVDS63p (io), C4 IO, LVDS32p (DEV_CLRn) (io), C5 IO, LVDS35p (io), C6 IO, DPCLK2 (DQS1T) (io), C7 IO, LVDS39n (DQ1T2) (io), C8 IO, LVDS42n (io), C9 IO, LVDS44n (DM1T) (io), C10 IO, LVDS47p (io), C11 IO, LVDS48p (io), C12 IO, LVDS50p (io), C13 IO, LVDS53n (io), C14 IO, LVDS55n (DQ0T4) (io), C15 IO, DPCLK3 (DQS0T) (io), C16 IO, LVDS61n (DQ0T2) (io), C17 IO, LVDS63n (io), D5 IO, LVDS34p (DQ1T5) (io), D6 IO, LVDS34n (DQ1T4) (io), D7 IO, LVDS39p (DQ1T3) (io), D8 IO, LVDS42p (io), D9 IO, LVDS44p (io), D10 IO, LVDS47n (io), D11 IO, LVDS48n (io), D12 IO, LVDS50n (io), D13 IO, LVDS53p (io), D14 IO, LVDS55p (DQ0T5) (io), D15 IO, VREF0B2 (io), D16 IO, LVDS60n (io), E6 IO, VREF2B2 (io), E7 IO, LVDS37n (io), E8 IO, LVDS40n (DQ1T0) (io), E9 IO, LVDS45p (io), E10 IO, LVDS45n (io), E11 IO (io), E12 IO, LVDS52n (io), E13 IO, LVDS56p (io), E14 IO, LVDS56n (io), E15 IO, LVDS58n (io), E16 IO, LVDS60p (io), F7 IO, LVDS37p (io), F8 IO, LVDS40p (DQ1T1) (io), F10 IO, VREF1B2 (io), F12 IO, LVDS52p (io), F14 IO, LVDS58p (io)
part C pins: C18 IO, LVDS64p (io), C19 IO, LVDS64n (io), D17 IO, VREF0B3 (io), D18 IO, LVDS65p (io), D19 IO, LVDS65n (io), D20 IO (DQ0R0) (io), E17 IO, LVDS66p (DQ0R1) (io), E18 IO, LVDS67p (DQ0R3) (io), E19 IO, LVDS67n (io), F15 IO, LVDS68n (io), F16 IO, LVDS68p (io), F17 IO, LVDS66n (DQ0R2) (io), F18 IO, DPCLK4 (DQS0R) (io), F19 IO, LVDS69p (io), F20 IO, LVDS69n (io), G14 IO, LVDS72p (io), G15 IO, LVDS70n (io), G16 IO, LVDS70p (io), G17 IO, LVDS73n (DQ0R6) (io), G18 IO, LVDS73p (DQ0R5) (io), G19 IO, LVDS71n (io), G20 IO, LVDS71p (io), H14 IO, LVDS78p (io), H15 IO, LVDS72n (DQ0R4) (io), H16 IO (DQ0R7) (io), H17 IO, LVDS74n (io), H18 IO, LVDS74p (io), H19 IO, LVDS75p (io), H20 IO, LVDS75n (io), J13 IO (io), J14 IO, LVDS78n (io), J15 IO, LVDS76n (io), J16 IO, LVDS76p (DM0R) (io), J17 IO, LVDS79p (io), J18 IO, LVDS79n (io), J19 IO, LVDS77p (io), J20 IO, LVDS77n (io), K15 IO, LVDS80p (io), K16 IO, LVDS80n (io), K19 IO, VREF1B3 (io), L13 IO, PLL2_OUTp (io), M13 IO, PLL2_OUTn (io), M14 IO (io), M15 IO, LVDS82n (io), M16 IO, LVDS82p (io), M17 IO, LVDS83p (io), M18 IO, LVDS83n (io), M19 IO, LVDS81p (io), M20 IO, LVDS81n (io), N14 IO (DQ1R0) (io), N15 IO, LVDS84p (io), N16 IO, LVDS84n (DM1R) (io), N17 IO, LVDS86p (io), N18 IO, LVDS86n (io), N19 IO, LVDS85n (io), N20 IO, LVDS85p (io), P14 IO, LVDS90p (io), P15 IO, LVDS88p (DQ1R1) (io), P16 IO, LVDS88n (DQ1R2) (io), P17 IO, LVDS89p (DQ1R3) (io), P18 IO, LVDS89n (io), P19 IO, LVDS87n (io), P20 IO, LVDS87p (io), R15 IO, LVDS90n (io), R16 IO, LVDS93p (DQ1R4) (io), R17 IO, LVDS91n (io), R18 IO, LVDS91p (io), R19 IO, LVDS92n (io), R20 IO, LVDS92p (io), T17 IO, LVDS93n (DQ1R5) (io), T18 IO (DQ1R6) (io), T19 IO, DPCLK5 (DQS1R) (io), U17 IO, VREF2B3 (io), U18 IO, LVDS94n (DQ1R7) (io), U19 IO, LVDS94p (io), U20 IO, LVDS95p (io), V18 IO, LVDS96p (io), V19 IO, LVDS95n (io), W18 IO, LVDS96n (io)
part D pins: R7 IO, LVDS121p (DQ1B3) (io), R9 IO, LVDS116n (io), R11 IO (io), R13 IO, LVDS107n (io), R14 IO, LVDS104p (io), T5 IO, LVDS126p (DQ1B7) (io), T6 IO, DPCLK7 (DQS1B) (io), T7 IO, VREF2B4 (io), T8 IO, LVDS121n (DQ1B2) (io), T9 IO, LVDS116p (DM1B) (io), T10 IO, LVDS114p (io), T11 IO, LVDS109p (io), T12 IO, LVDS109n (io), T13 IO, LVDS107p (io), T14 IO, LVDS104n (io), T15 IO, LVDS100p (io), T16 IO, LVDS100n (io), U5 IO, LVDS126n (DQ1B6) (io), U6 IO, LVDS123p (DQ1B4) (io), U7 IO, LVDS120n (DQ1B0) (io), U8 IO, LVDS119n (io), U9 IO, LVDS117p (io), U10 IO, LVDS114n (io), U11 IO, LVDS112n (io), U12 IO, LVDS108p (DM0B) (io), U13 IO, LVDS105p (DQ0B5) (io), U14 IO, LVDS102p (io), U15 IO, LVDS101n (io), U16 IO, LVDS98n (DQ0B0) (io), V4 IO, LVDS127p (io), V5 IO, LVDS125p (io), V6 IO, LVDS123n (io), V7 IO, LVDS120p (DQ1B1) (io), V8 IO, LVDS119p (io), V9 IO, LVDS117n (io), V10 IO, VREF1B4 (io), V11 IO, LVDS112p (io), V12 IO, LVDS108n (io), V13 IO, LVDS105n (DQ0B4) (io), V14 IO, LVDS102n (io), V15 IO, LVDS101p (io), V16 IO, LVDS99n (DQ0B2) (io), V17 IO, LVDS98p (DQ0B1) (io), W3 IO, LVDS128p (io), W4 IO, LVDS127n (io), W5 IO, LVDS125n (io), W6 IO, LVDS124p (io), W7 IO, LVDS122p (io), W8 IO, LVDS118p (io), W9 IO, LVDS115n (io), W10 IO, LVDS113p (io), W11 IO, LVDS111p (io), W12 IO, LVDS110n (io), W13 IO, LVDS106n (DQ0B6) (io), W14 IO, LVDS103p (io), W15 IO, DPCLK6 (DQS0B) (io), W16 IO, LVDS99p (DQ0B3) (io), W17 IO, LVDS97n (io), Y4 IO, LVDS128n (io), Y6 IO, LVDS124n (DQ1B5) (io), Y7 IO, LVDS122n (io), Y8 IO, LVDS118n (io), Y9 IO, LVDS115p (io), Y10 IO, LVDS113n (io), Y11 IO, LVDS111n (io), Y12 IO, LVDS110p (io), Y13 IO, LVDS106p (DQ0B7) (io), Y14 IO, LVDS103n (io), Y15 IO, VREF0B4 (io), Y17 IO, LVDS97p (io)
part E pins: K1 nCONFIG (in), K3 DATA0 (in), K18 TDI (in), L1 MSEL0 (in), L2 nCEO (out), L3 DCLK (io), L5 nCE (in), L6 MSEL1 (in), L16 TMS (in), L17 nSTATUS (io), L18 CONF_DONE (io), L19 TCK (in), L20 TDO (out)
part F pins: A2 VCCINT (power), A5 VCCIO2 (power), A16 VCCIO2 (power), A19 VCCINT (power), B1 VCCINT (power), B20 VCCINT (power), E1 VCCIO1 (power), E20 VCCIO3 (power), F9 VCCIO2 (power), F11 VCCIO2 (power), F13 VCCIO2 (power), H8 VCCIO1 (power), H10 VCCINT (power), H12 VCCINT (power), H13 VCCIO3 (power), J9 VCCINT (power), J11 VCCINT (power), K8 VCCIO1 (power), K10 VCCINT (power), K12 VCCINT (power), K13 VCCIO3 (power), L9 VCCINT (power), L11 VCCINT (power), M10 VCCINT (power), M12 VCCINT (power), N8 VCCIO1 (power), N9 VCCINT (power), N11 VCCINT (power), N13 VCCIO3 (power), R8 VCCIO4 (power), R10 VCCIO4 (power), R12 VCCIO4 (power), T1 VCCIO1 (power), T20 VCCIO3 (power), W1 VCCINT (power), W20 VCCINT (power), Y2 VCCINT (power), Y5 VCCIO4 (power), Y16 VCCIO4 (power), Y19 VCCINT (power)
part G pins: A1 GND (power), A3 GND (power), A18 GND (power), A20 GND (power), B2 GND (power), B19 GND (power), C1 GND (power), C20 GND (power), G8 GND (power), G9 GND (power), G10 GND (power), G11 GND (power), G12 GND (power), G13 GND (power), H9 GND (power), H11 GND (power), J10 GND (power), J12 GND (power), K9 GND (power), K11 GND (power), L10 GND (power), L12 GND (power), M9 GND (power), M11 GND (power), N10 GND (power), N12 GND (power), P8 GND (power), P9 GND (power), P10 GND (power), P11 GND (power), P12 GND (power), P13 GND (power), V1 GND (power), V20 GND (power), W2 GND (power), W19 GND (power), Y1 GND (power), Y3 GND (power), Y18 GND (power), Y20 GND (power)
part H pins: K4 VCCA_PLL1 (power), K7 GNDA_PLL1 (power), K17 VCCA_PLL2 (power), K20 GNDA_PLL2 (power), L7 GNDG_PLL1 (power), L15 GNDG_PLL2 (power)
part I pins: K5 CLK0, LVDSCLK1p (in), K6 CLK1, LVDSCLK1n (in), K14 CLK3, LVDSCLK2n (in), L14 CLK2, LVDSCLK2p (in)
part A text: BANK 1
part B text: BANK 2
part C text: BANK 3
part D text: BANK 4

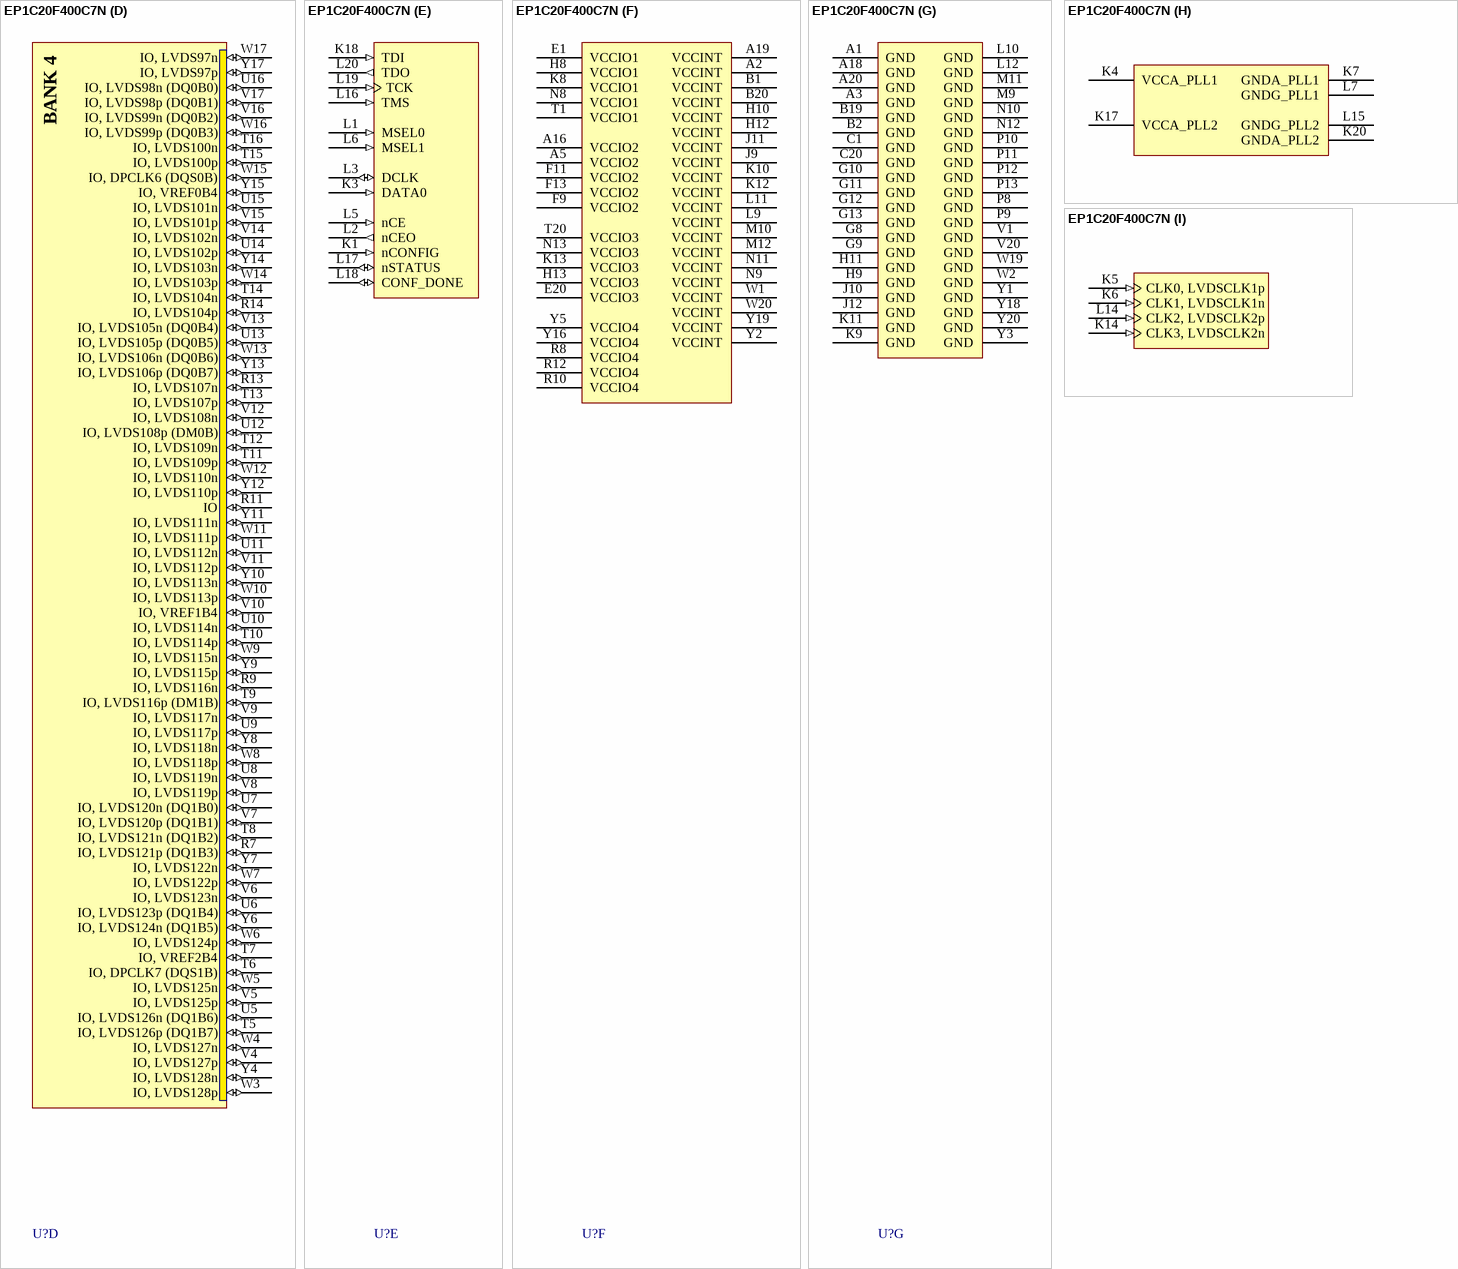
[diagram p141: symbol EP1C20F400C7N]

## EP1C20F400C7N
designator U?
Cyclone Family, 1.5V FPGA, 301 I/O Pins, 2 x PLLs, Commercial Grade, Speed Grade 7, Pb-Free; Published: 18-Aug-2005; LatestRevisionDate: 13-Apr-2006; LatestRevisionNote: Pin C2 name fix, IPC-7351 Footprint Added.; DatasheetVersion: May-2008; PackageVersion: ver15.1, May-2008; PackageReference: FBGA400; Publisher: Altium Limited; PackageDescription: 400-Ball FineLine Ball Grid Array (FBGA400); Code_JEDEC: MS-034-AAH-1; Code_IPC: BGA100P20X20-400; ComponentLink1Description: Manufacturer Link; ComponentLink1URL: http://www.altera.com/products/devices/cyclone/cyc-index.jsp; ComponentLink2Description: Handbook; ComponentLink2URL: http://www.altera.com/literature/hb/cyc/cyc_c5v1.pdf; ComponentLink3Description: Packaging Specification; ComponentLink3URL: http://www.altera.com/literature/ds/dspkg.pdf
footprint FBGA400 (BGA, 400-Leads, Body 21x21mm, Pitch 1mm)
3D model EP1C20-FBGA400 (400-Ball FineLine Ball Grid Array (FBGA400))
signal-integrity model 1c (Cyclone)
part A pins: C2 IO, LVDS31n (CRC_ERROR) (io), C3 IO, LVDS31p (INIT_DONE) (io), D1 IO (io), D2 IO, LVDS30n (io), D3 IO, LVDS30p (CLKUSR) (io), D4 IO, VREF0B1 (io), E2 IO, LVDS28n (DQ0L3) (io), E3 IO, LVDS28p (DQ0L2) (io), E4 IO, LVDS29p (DQ0L0) (io), E5 IO, LVDS29n (DQ0L1) (io), F1 IO, LVDS26n (io), F2 IO, LVDS26p (io), F3 IO, DPCLK1 (DQS0L) (io), F4 IO, LVDS27p (io), F5 IO, LVDS27n (io), F6 IO, LVDS25p (io), G1 IO, LVDS24p (io), G2 IO, LVDS24n (io), G3 IO, LVDS22p (DQ0L5) (io), G4 IO, LVDS22n (DQ0L6) (io), G5 IO, LVDS25n (io), G6 IO, LVDS23p (io), G7 IO, LVDS23n (DQ0L4) (io), H1 IO, LVDS21p (io), H2 IO, LVDS21n (io), H3 IO, LVDS20p (io), H4 IO, LVDS20n (DM0L) (io), H5 IO, LVDS18p (io), H6 IO, LVDS18n (io), H7 IO (DQ0L7) (io), J1 IO, LVDS19p (io), J2 IO, LVDS19n (io), J3 IO, LVDS17p (io), J4 IO, LVDS17n (io), J5 IO, LVDS16p (io), J6 IO, LVDS16n (io), J7 IO (io), J8 IO, VREF1B1 (io), K2 IO (nCSO) (io), L4 IO (ASDO) (io), L8 IO, PLL1_OUTp (io), M1 IO, LVDS15n (io), M2 IO, LVDS15p (io), M3 IO, LVDS13n (io), M4 IO, LVDS13p (io), M5 IO, LVDS14p (io), M6 IO, LVDS14n (io), M7 IO, LVDS12p (DM1L) (io), M8 IO, PLL1_OUTn (io), N1 IO, LVDS11p (io), N2 IO, LVDS11n (io), N3 IO, LVDS10n (io), N4 IO, LVDS10p (io), N5 IO (DQ1L0) (io), N6 IO, LVDS12n (io), N7 IO, LVDS9p (io), P1 IO, LVDS8n (DQ1L2) (io), P2 IO, LVDS8p (DQ1L1) (io), P3 IO, LVDS6p (io), P4 IO, LVDS6n (io), P5 IO, LVDS7n (io), P6 IO, LVDS7p (DQ1L3) (io), P7 IO, LVDS9n (io), R1 IO, LVDS5p (io), R2 IO, LVDS5n (io), R3 IO, LVDS3p (DQ1L4) (io), R4 IO, LVDS3n (DQ1L5) (io), R5 IO, LVDS4n (io), R6 IO, LVDS4p (io), T2 IO, LVDS2p (DQ1L6) (io), T3 IO, LVDS2n (DQ1L7) (io), T4 IO, DPCLK0 (DQS1L) (io), U1 IO, VREF2B1 (io), U2 IO, LVDS1p (io), U3 IO, LVDS1n (io), U4 IO (io), V2 IO, LVDS0p (io), V3 IO, LVDS0n (io)
part B pins: A4 IO, LVDS33n (DQ1T6) (io), A6 IO, LVDS36n (io), A7 IO, LVDS38n (io), A8 IO, LVDS41n (io), A9 IO, LVDS43n (io), A10 IO, LVDS46n (io), A11 IO, LVDS49n (io), A12 IO, LVDS51n (io), A13 IO, LVDS54n (DQ0T6) (io), A14 IO, LVDS57n (io), A15 IO, LVDS59p (io), A17 IO, LVDS62p (DQ0T1) (io), B3 IO, LVDS32n (DEV_OE) (io), B4 IO, LVDS33p (DQ1T7) (io), B5 IO, LVDS35n (io), B6 IO, LVDS36p (io), B7 IO, LVDS38p (io), B8 IO, LVDS41p (io), B9 IO, LVDS43p (io), B10 IO, LVDS46p (io), B11 IO, LVDS49p (io), B12 IO, LVDS51p (DM0T) (io), B13 IO, LVDS54p (DQ0T7) (io), B14 IO, LVDS57p (io), B15 IO, LVDS59n (io), B16 IO, LVDS61p (DQ0T3) (io), B17 IO, LVDS62n (DQ0T0) (io), B18 IO, LVDS63p (io), C4 IO, LVDS32p (DEV_CLRn) (io), C5 IO, LVDS35p (io), C6 IO, DPCLK2 (DQS1T) (io), C7 IO, LVDS39n (DQ1T2) (io), C8 IO, LVDS42n (io), C9 IO, LVDS44n (DM1T) (io), C10 IO, LVDS47p (io), C11 IO, LVDS48p (io), C12 IO, LVDS50p (io), C13 IO, LVDS53n (io), C14 IO, LVDS55n (DQ0T4) (io), C15 IO, DPCLK3 (DQS0T) (io), C16 IO, LVDS61n (DQ0T2) (io), C17 IO, LVDS63n (io), D5 IO, LVDS34p (DQ1T5) (io), D6 IO, LVDS34n (DQ1T4) (io), D7 IO, LVDS39p (DQ1T3) (io), D8 IO, LVDS42p (io), D9 IO, LVDS44p (io), D10 IO, LVDS47n (io), D11 IO, LVDS48n (io), D12 IO, LVDS50n (io), D13 IO, LVDS53p (io), D14 IO, LVDS55p (DQ0T5) (io), D15 IO, VREF0B2 (io), D16 IO, LVDS60n (io), E6 IO, VREF2B2 (io), E7 IO, LVDS37n (io), E8 IO, LVDS40n (DQ1T0) (io), E9 IO, LVDS45p (io), E10 IO, LVDS45n (io), E11 IO (io), E12 IO, LVDS52n (io), E13 IO, LVDS56p (io), E14 IO, LVDS56n (io), E15 IO, LVDS58n (io), E16 IO, LVDS60p (io), F7 IO, LVDS37p (io), F8 IO, LVDS40p (DQ1T1) (io), F10 IO, VREF1B2 (io), F12 IO, LVDS52p (io), F14 IO, LVDS58p (io)
part C pins: C18 IO, LVDS64p (io), C19 IO, LVDS64n (io), D17 IO, VREF0B3 (io), D18 IO, LVDS65p (io), D19 IO, LVDS65n (io), D20 IO (DQ0R0) (io), E17 IO, LVDS66p (DQ0R1) (io), E18 IO, LVDS67p (DQ0R3) (io), E19 IO, LVDS67n (io), F15 IO, LVDS68n (io), F16 IO, LVDS68p (io), F17 IO, LVDS66n (DQ0R2) (io), F18 IO, DPCLK4 (DQS0R) (io), F19 IO, LVDS69p (io), F20 IO, LVDS69n (io), G14 IO, LVDS72p (io), G15 IO, LVDS70n (io), G16 IO, LVDS70p (io), G17 IO, LVDS73n (DQ0R6) (io), G18 IO, LVDS73p (DQ0R5) (io), G19 IO, LVDS71n (io), G20 IO, LVDS71p (io), H14 IO, LVDS78p (io), H15 IO, LVDS72n (DQ0R4) (io), H16 IO (DQ0R7) (io), H17 IO, LVDS74n (io), H18 IO, LVDS74p (io), H19 IO, LVDS75p (io), H20 IO, LVDS75n (io), J13 IO (io), J14 IO, LVDS78n (io), J15 IO, LVDS76n (io), J16 IO, LVDS76p (DM0R) (io), J17 IO, LVDS79p (io), J18 IO, LVDS79n (io), J19 IO, LVDS77p (io), J20 IO, LVDS77n (io), K15 IO, LVDS80p (io), K16 IO, LVDS80n (io), K19 IO, VREF1B3 (io), L13 IO, PLL2_OUTp (io), M13 IO, PLL2_OUTn (io), M14 IO (io), M15 IO, LVDS82n (io), M16 IO, LVDS82p (io), M17 IO, LVDS83p (io), M18 IO, LVDS83n (io), M19 IO, LVDS81p (io), M20 IO, LVDS81n (io), N14 IO (DQ1R0) (io), N15 IO, LVDS84p (io), N16 IO, LVDS84n (DM1R) (io), N17 IO, LVDS86p (io), N18 IO, LVDS86n (io), N19 IO, LVDS85n (io), N20 IO, LVDS85p (io), P14 IO, LVDS90p (io), P15 IO, LVDS88p (DQ1R1) (io), P16 IO, LVDS88n (DQ1R2) (io), P17 IO, LVDS89p (DQ1R3) (io), P18 IO, LVDS89n (io), P19 IO, LVDS87n (io), P20 IO, LVDS87p (io), R15 IO, LVDS90n (io), R16 IO, LVDS93p (DQ1R4) (io), R17 IO, LVDS91n (io), R18 IO, LVDS91p (io), R19 IO, LVDS92n (io), R20 IO, LVDS92p (io), T17 IO, LVDS93n (DQ1R5) (io), T18 IO (DQ1R6) (io), T19 IO, DPCLK5 (DQS1R) (io), U17 IO, VREF2B3 (io), U18 IO, LVDS94n (DQ1R7) (io), U19 IO, LVDS94p (io), U20 IO, LVDS95p (io), V18 IO, LVDS96p (io), V19 IO, LVDS95n (io), W18 IO, LVDS96n (io)
part D pins: R7 IO, LVDS121p (DQ1B3) (io), R9 IO, LVDS116n (io), R11 IO (io), R13 IO, LVDS107n (io), R14 IO, LVDS104p (io), T5 IO, LVDS126p (DQ1B7) (io), T6 IO, DPCLK7 (DQS1B) (io), T7 IO, VREF2B4 (io), T8 IO, LVDS121n (DQ1B2) (io), T9 IO, LVDS116p (DM1B) (io), T10 IO, LVDS114p (io), T11 IO, LVDS109p (io), T12 IO, LVDS109n (io), T13 IO, LVDS107p (io), T14 IO, LVDS104n (io), T15 IO, LVDS100p (io), T16 IO, LVDS100n (io), U5 IO, LVDS126n (DQ1B6) (io), U6 IO, LVDS123p (DQ1B4) (io), U7 IO, LVDS120n (DQ1B0) (io), U8 IO, LVDS119n (io), U9 IO, LVDS117p (io), U10 IO, LVDS114n (io), U11 IO, LVDS112n (io), U12 IO, LVDS108p (DM0B) (io), U13 IO, LVDS105p (DQ0B5) (io), U14 IO, LVDS102p (io), U15 IO, LVDS101n (io), U16 IO, LVDS98n (DQ0B0) (io), V4 IO, LVDS127p (io), V5 IO, LVDS125p (io), V6 IO, LVDS123n (io), V7 IO, LVDS120p (DQ1B1) (io), V8 IO, LVDS119p (io), V9 IO, LVDS117n (io), V10 IO, VREF1B4 (io), V11 IO, LVDS112p (io), V12 IO, LVDS108n (io), V13 IO, LVDS105n (DQ0B4) (io), V14 IO, LVDS102n (io), V15 IO, LVDS101p (io), V16 IO, LVDS99n (DQ0B2) (io), V17 IO, LVDS98p (DQ0B1) (io), W3 IO, LVDS128p (io), W4 IO, LVDS127n (io), W5 IO, LVDS125n (io), W6 IO, LVDS124p (io), W7 IO, LVDS122p (io), W8 IO, LVDS118p (io), W9 IO, LVDS115n (io), W10 IO, LVDS113p (io), W11 IO, LVDS111p (io), W12 IO, LVDS110n (io), W13 IO, LVDS106n (DQ0B6) (io), W14 IO, LVDS103p (io), W15 IO, DPCLK6 (DQS0B) (io), W16 IO, LVDS99p (DQ0B3) (io), W17 IO, LVDS97n (io), Y4 IO, LVDS128n (io), Y6 IO, LVDS124n (DQ1B5) (io), Y7 IO, LVDS122n (io), Y8 IO, LVDS118n (io), Y9 IO, LVDS115p (io), Y10 IO, LVDS113n (io), Y11 IO, LVDS111n (io), Y12 IO, LVDS110p (io), Y13 IO, LVDS106p (DQ0B7) (io), Y14 IO, LVDS103n (io), Y15 IO, VREF0B4 (io), Y17 IO, LVDS97p (io)
part E pins: K1 nCONFIG (in), K3 DATA0 (in), K18 TDI (in), L1 MSEL0 (in), L2 nCEO (out), L3 DCLK (io), L5 nCE (in), L6 MSEL1 (in), L16 TMS (in), L17 nSTATUS (io), L18 CONF_DONE (io), L19 TCK (in), L20 TDO (out)
part F pins: A2 VCCINT (power), A5 VCCIO2 (power), A16 VCCIO2 (power), A19 VCCINT (power), B1 VCCINT (power), B20 VCCINT (power), E1 VCCIO1 (power), E20 VCCIO3 (power), F9 VCCIO2 (power), F11 VCCIO2 (power), F13 VCCIO2 (power), H8 VCCIO1 (power), H10 VCCINT (power), H12 VCCINT (power), H13 VCCIO3 (power), J9 VCCINT (power), J11 VCCINT (power), K8 VCCIO1 (power), K10 VCCINT (power), K12 VCCINT (power), K13 VCCIO3 (power), L9 VCCINT (power), L11 VCCINT (power), M10 VCCINT (power), M12 VCCINT (power), N8 VCCIO1 (power), N9 VCCINT (power), N11 VCCINT (power), N13 VCCIO3 (power), R8 VCCIO4 (power), R10 VCCIO4 (power), R12 VCCIO4 (power), T1 VCCIO1 (power), T20 VCCIO3 (power), W1 VCCINT (power), W20 VCCINT (power), Y2 VCCINT (power), Y5 VCCIO4 (power), Y16 VCCIO4 (power), Y19 VCCINT (power)
part G pins: A1 GND (power), A3 GND (power), A18 GND (power), A20 GND (power), B2 GND (power), B19 GND (power), C1 GND (power), C20 GND (power), G8 GND (power), G9 GND (power), G10 GND (power), G11 GND (power), G12 GND (power), G13 GND (power), H9 GND (power), H11 GND (power), J10 GND (power), J12 GND (power), K9 GND (power), K11 GND (power), L10 GND (power), L12 GND (power), M9 GND (power), M11 GND (power), N10 GND (power), N12 GND (power), P8 GND (power), P9 GND (power), P10 GND (power), P11 GND (power), P12 GND (power), P13 GND (power), V1 GND (power), V20 GND (power), W2 GND (power), W19 GND (power), Y1 GND (power), Y3 GND (power), Y18 GND (power), Y20 GND (power)
part H pins: K4 VCCA_PLL1 (power), K7 GNDA_PLL1 (power), K17 VCCA_PLL2 (power), K20 GNDA_PLL2 (power), L7 GNDG_PLL1 (power), L15 GNDG_PLL2 (power)
part I pins: K5 CLK0, LVDSCLK1p (in), K6 CLK1, LVDSCLK1n (in), K14 CLK3, LVDSCLK2n (in), L14 CLK2, LVDSCLK2p (in)
part A text: BANK 1
part B text: BANK 2
part C text: BANK 3
part D text: BANK 4

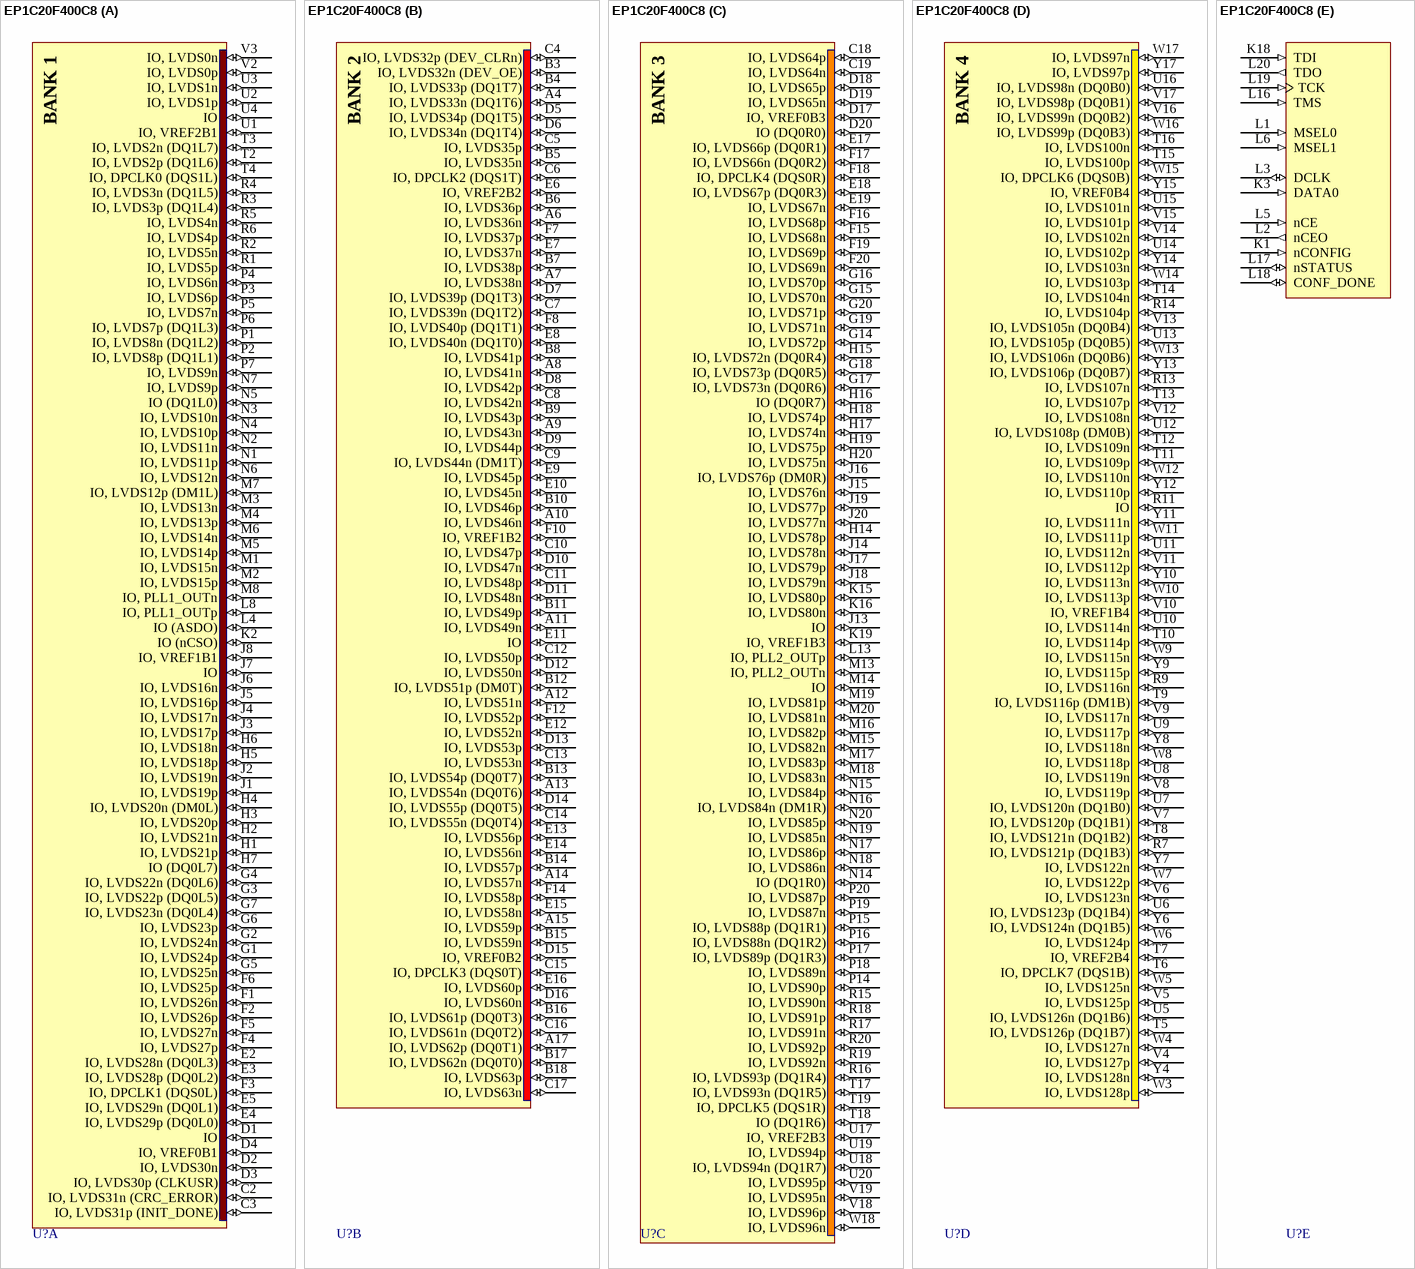
[diagram p142: symbol EP1C20F400C8]

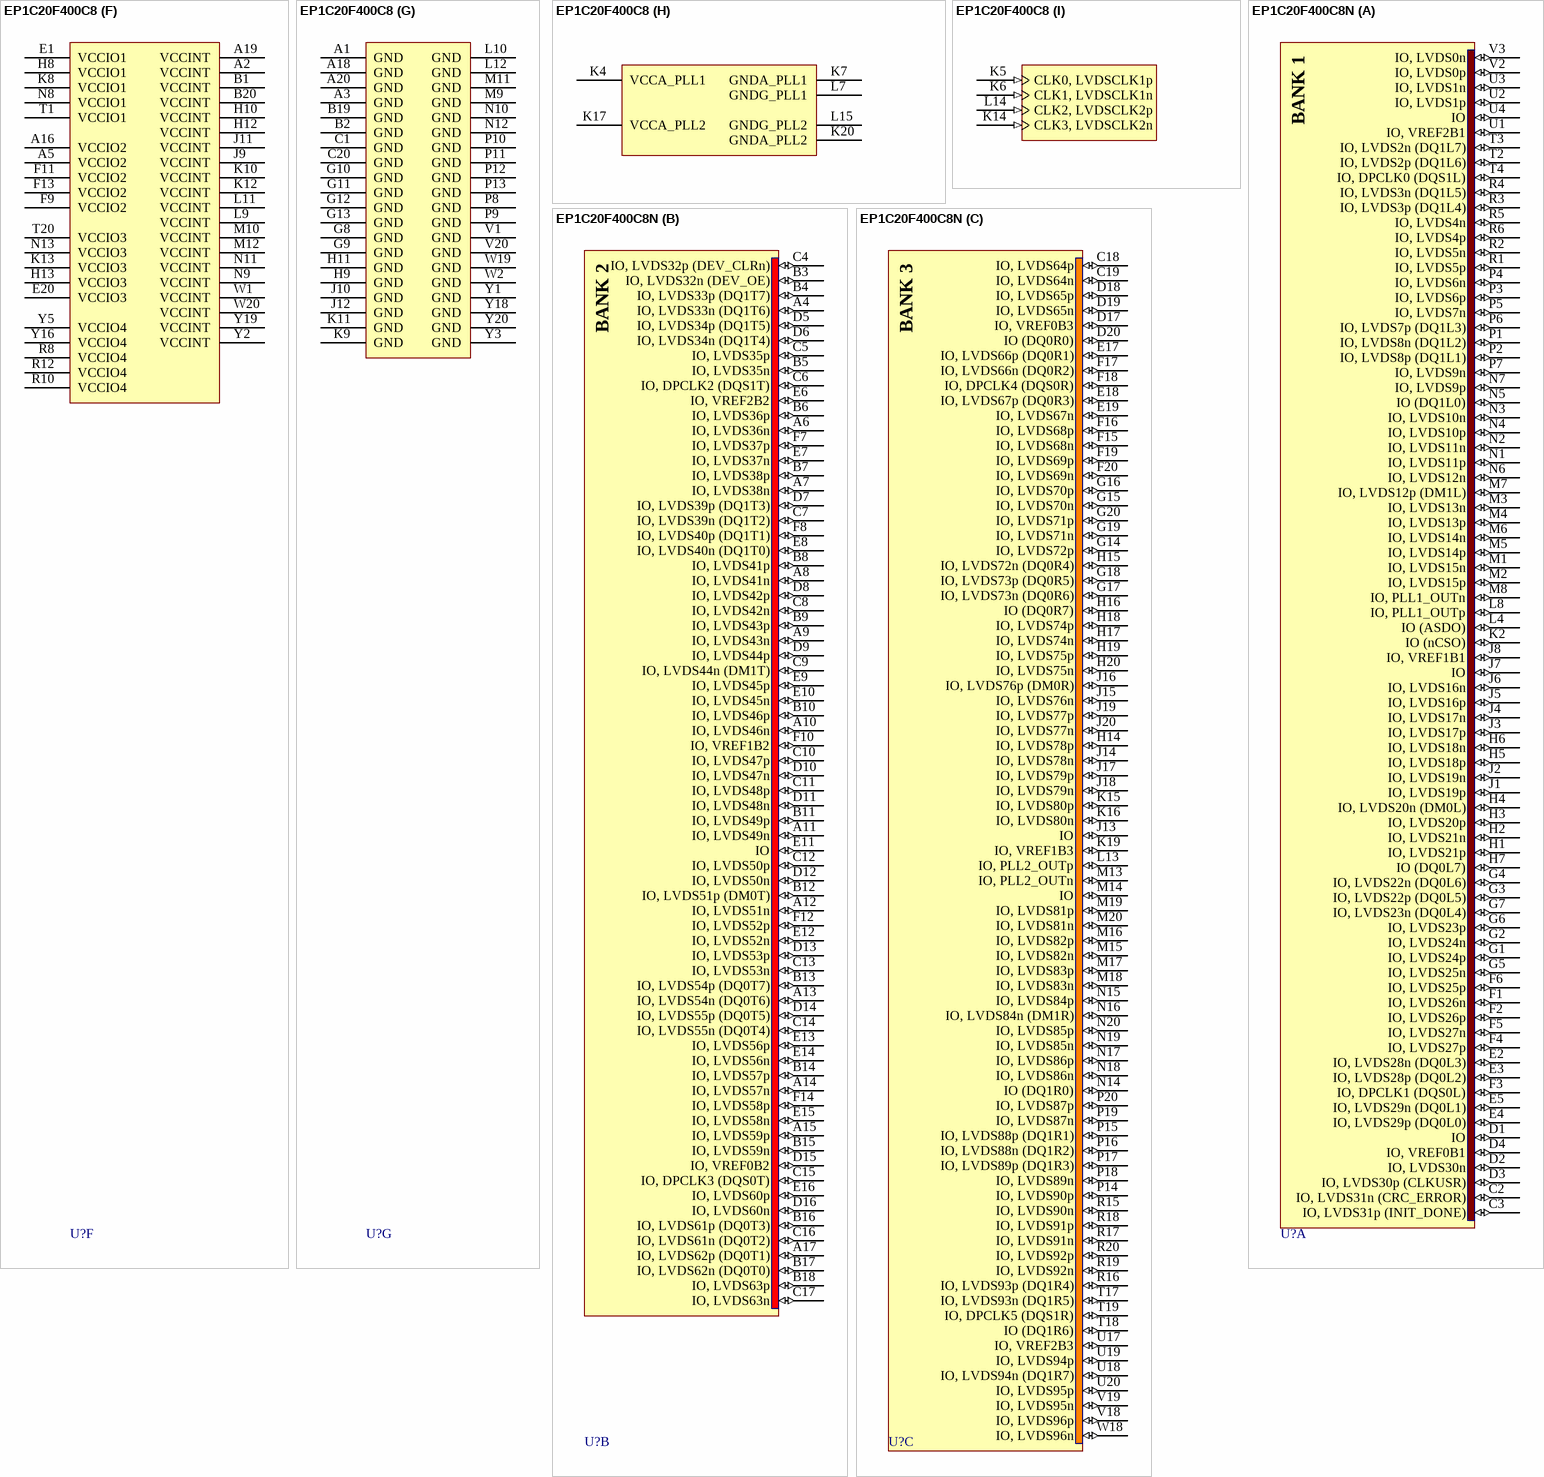
[diagram p143: symbols EP1C20F400C8 to EP1C20F400C8N]